# Altium schematic symbol library PROC154E3_SCH_Library.SchLib: 288 symbols (part 1 of 3)
Pins are listed as number, name and electrical type; pins without a type are passive.

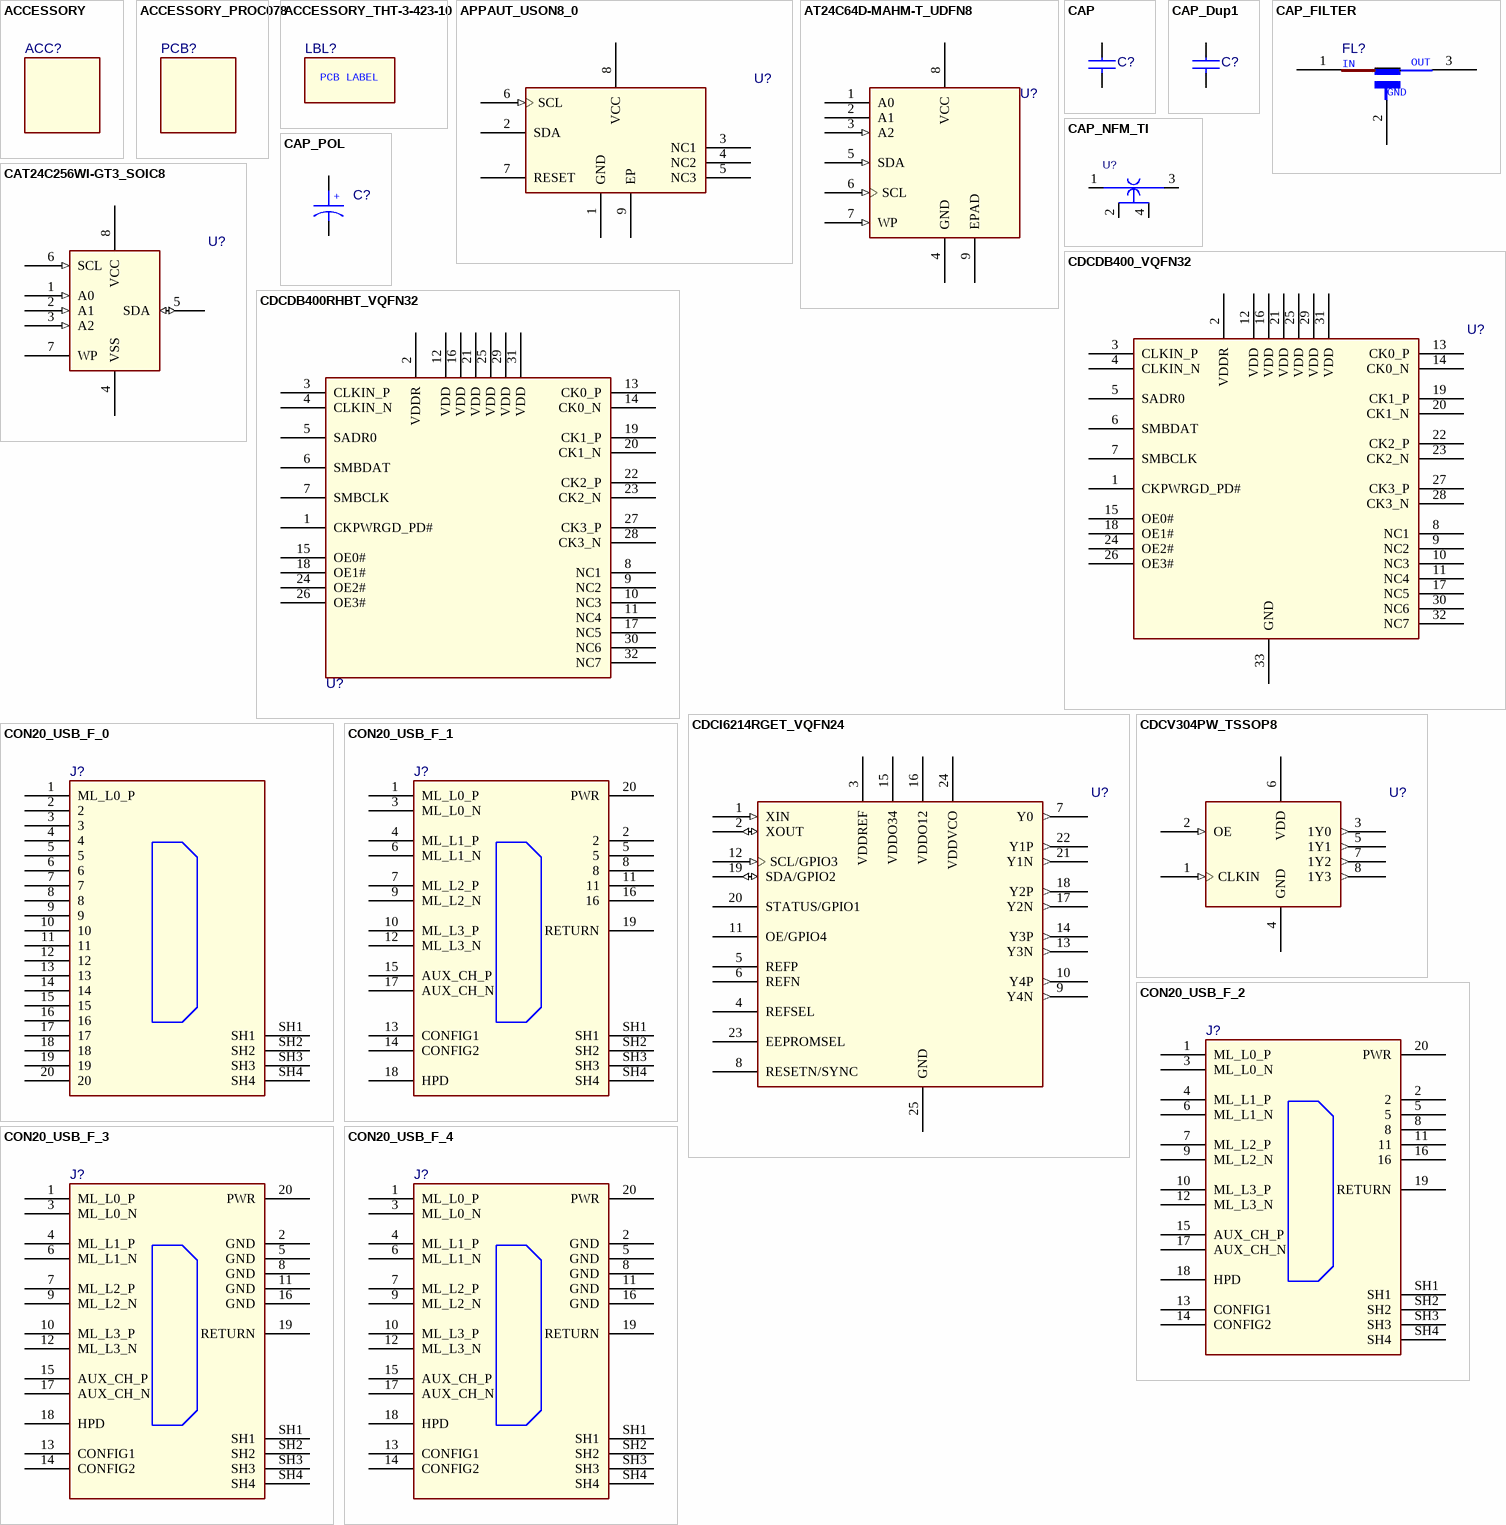
[diagram p0: symbols ACCESSORY to CON20_USB_F_4]

## ACCESSORY
designator ACC?

## ACCESSORY_PROC078
designator PCB?

## ACCESSORY_THT-3-423-10
designator LBL?
text: PCB LABEL

## APPAUT_USON8_0
designator U?
pins: 1 GND (power), 2 SDA, 3 NC1, 4 NC2, 5 NC3, 6 SCL (in), 7 RESET, 8 VCC (power), 9 EP (power)

## AT24C64D-MAHM-T_UDFN8
designator U?
pins: 1 A0, 2 A1, 3 A2 (in), 4 GND (power), 5 SDA (in), 6 SCL (in), 7 WP (in), 8 VCC (power), 9 EPAD (power)

## CAP
designator C?
pins: 1, 2

## CAP_Dup1
designator C?
pins: 1, 2

## CAP_FILTER
designator FL?
pins: 1 IN, 2 GND1 (power), 3 OUT
text: GND

## CAP_NFM_TI
designator U?
pins: 1, 2, 3, 4

## CAP_POL
designator C?
pins: 1, 2
text: +

## CAT24C256WI-GT3_SOIC8
designator U?
pins: 1 A0 (in), 2 A1 (in), 3 A2 (in), 4 VSS (power), 5 SDA (io), 6 SCL (in), 7 WP, 8 VCC (power)

## CDCDB400_VQFN32
designator U?
pins: 1 CKPWRGD_PD#, 2 VDDR (power), 3 CLKIN_P, 4 CLKIN_N, 5 SADR0, 6 SMBDAT, 7 SMBCLK, 8 NC1, 9 NC2, 10 NC3, 11 NC4, 12 VDD (power), 13 CK0_P, 14 CK0_N, 15 OE0#, 16 VDD (power), 17 NC5, 18 OE1#, 19 CK1_P, 20 CK1_N, 21 VDD (power), 22 CK2_P, 23 CK2_N, 24 OE2#, 25 VDD (power), 26 OE3#, 27 CK3_P, 28 CK3_N, 29 VDD (power), 30 NC6, 31 VDD (power), 32 NC7, 33 GND (power)

## CDCDB400RHBT_VQFN32
designator U?
pins: 1 CKPWRGD_PD#, 2 VDDR (power), 3 CLKIN_P, 4 CLKIN_N, 5 SADR0, 6 SMBDAT, 7 SMBCLK, 8 NC1, 9 NC2, 10 NC3, 11 NC4, 12 VDD (power), 13 CK0_P, 14 CK0_N, 15 OE0#, 16 VDD (power), 17 NC5, 18 OE1#, 19 CK1_P, 20 CK1_N, 21 VDD (power), 22 CK2_P, 23 CK2_N, 24 OE2#, 25 VDD (power), 26 OE3#, 27 CK3_P, 28 CK3_N, 29 VDD (power), 30 NC6, 31 VDD (power), 32 NC7

## CDCI6214RGET_VQFN24
designator U?
pins: 1 XIN (in), 2 XOUT (io), 3 VDDREF (power), 4 REFSEL, 5 REFP, 6 REFN, 7 Y0 (out), 8 RESETN/SYNC, 9 Y4N (out), 10 Y4P (out), 11 OE/GPIO4, 12 SCL/GPIO3 (in), 13 Y3N (out), 14 Y3P (out), 15 VDDO34 (power), 16 VDDO12 (power), 17 Y2N (out), 18 Y2P (out), 19 SDA/GPIO2 (io), 20 STATUS/GPIO1, 21 Y1N (out), 22 Y1P (out), 23 EEPROMSEL, 24 VDDVCO (power), 25 GND (power)

## CDCV304PW_TSSOP8
designator U?
pins: 1 CLKIN (in), 2 OE (in), 3 1Y0 (out), 4 GND (power), 5 1Y1 (out), 6 VDD (power), 7 1Y2 (out), 8 1Y3 (out)

## CON20_USB_F_0
designator J?
pins: 1 ML_L0_P, 2, 3, 4, 5, 6, 7, 8, 9, 10, 11, 12, 13, 14, 15, 16, 17, 18, 19, 20, SH1, SH2, SH3, SH4

## CON20_USB_F_1
designator J?
pins: 1 ML_L0_P, 2, 3 ML_L0_N, 4 ML_L1_P, 5, 6 ML_L1_N, 7 ML_L2_P, 8, 9 ML_L2_N, 10 ML_L3_P, 11, 12 ML_L3_N, 13 CONFIG1, 14 CONFIG2, 15 AUX_CH_P, 16, 17 AUX_CH_N, 18 HPD, 19 RETURN, 20 PWR, SH1, SH2, SH3, SH4

## CON20_USB_F_2
designator J?
pins: 1 ML_L0_P, 2, 3 ML_L0_N, 4 ML_L1_P, 5, 6 ML_L1_N, 7 ML_L2_P, 8, 9 ML_L2_N, 10 ML_L3_P, 11, 12 ML_L3_N, 13 CONFIG1, 14 CONFIG2, 15 AUX_CH_P, 16, 17 AUX_CH_N, 18 HPD, 19 RETURN, 20 PWR, SH1, SH2, SH3, SH4

## CON20_USB_F_3
designator J?
pins: 1 ML_L0_P, 2 GND, 3 ML_L0_N, 4 ML_L1_P, 5 GND, 6 ML_L1_N, 7 ML_L2_P, 8 GND, 9 ML_L2_N, 10 ML_L3_P, 11 GND, 12 ML_L3_N, 13 CONFIG1, 14 CONFIG2, 15 AUX_CH_P, 16 GND, 17 AUX_CH_N, 18 HPD, 19 RETURN, 20 PWR, SH1, SH2, SH3, SH4

## CON20_USB_F_4
designator J?
pins: 1 ML_L0_P, 2 GND (power), 3 ML_L0_N, 4 ML_L1_P, 5 GND (power), 6 ML_L1_N, 7 ML_L2_P, 8 GND (power), 9 ML_L2_N, 10 ML_L3_P, 11 GND (power), 12 ML_L3_N, 13 CONFIG1, 14 CONFIG2, 15 AUX_CH_P, 16 GND (power), 17 AUX_CH_N, 18 HPD, 19 RETURN, 20 PWR (power), SH1 (power), SH2 (power), SH3 (power), SH4 (power)

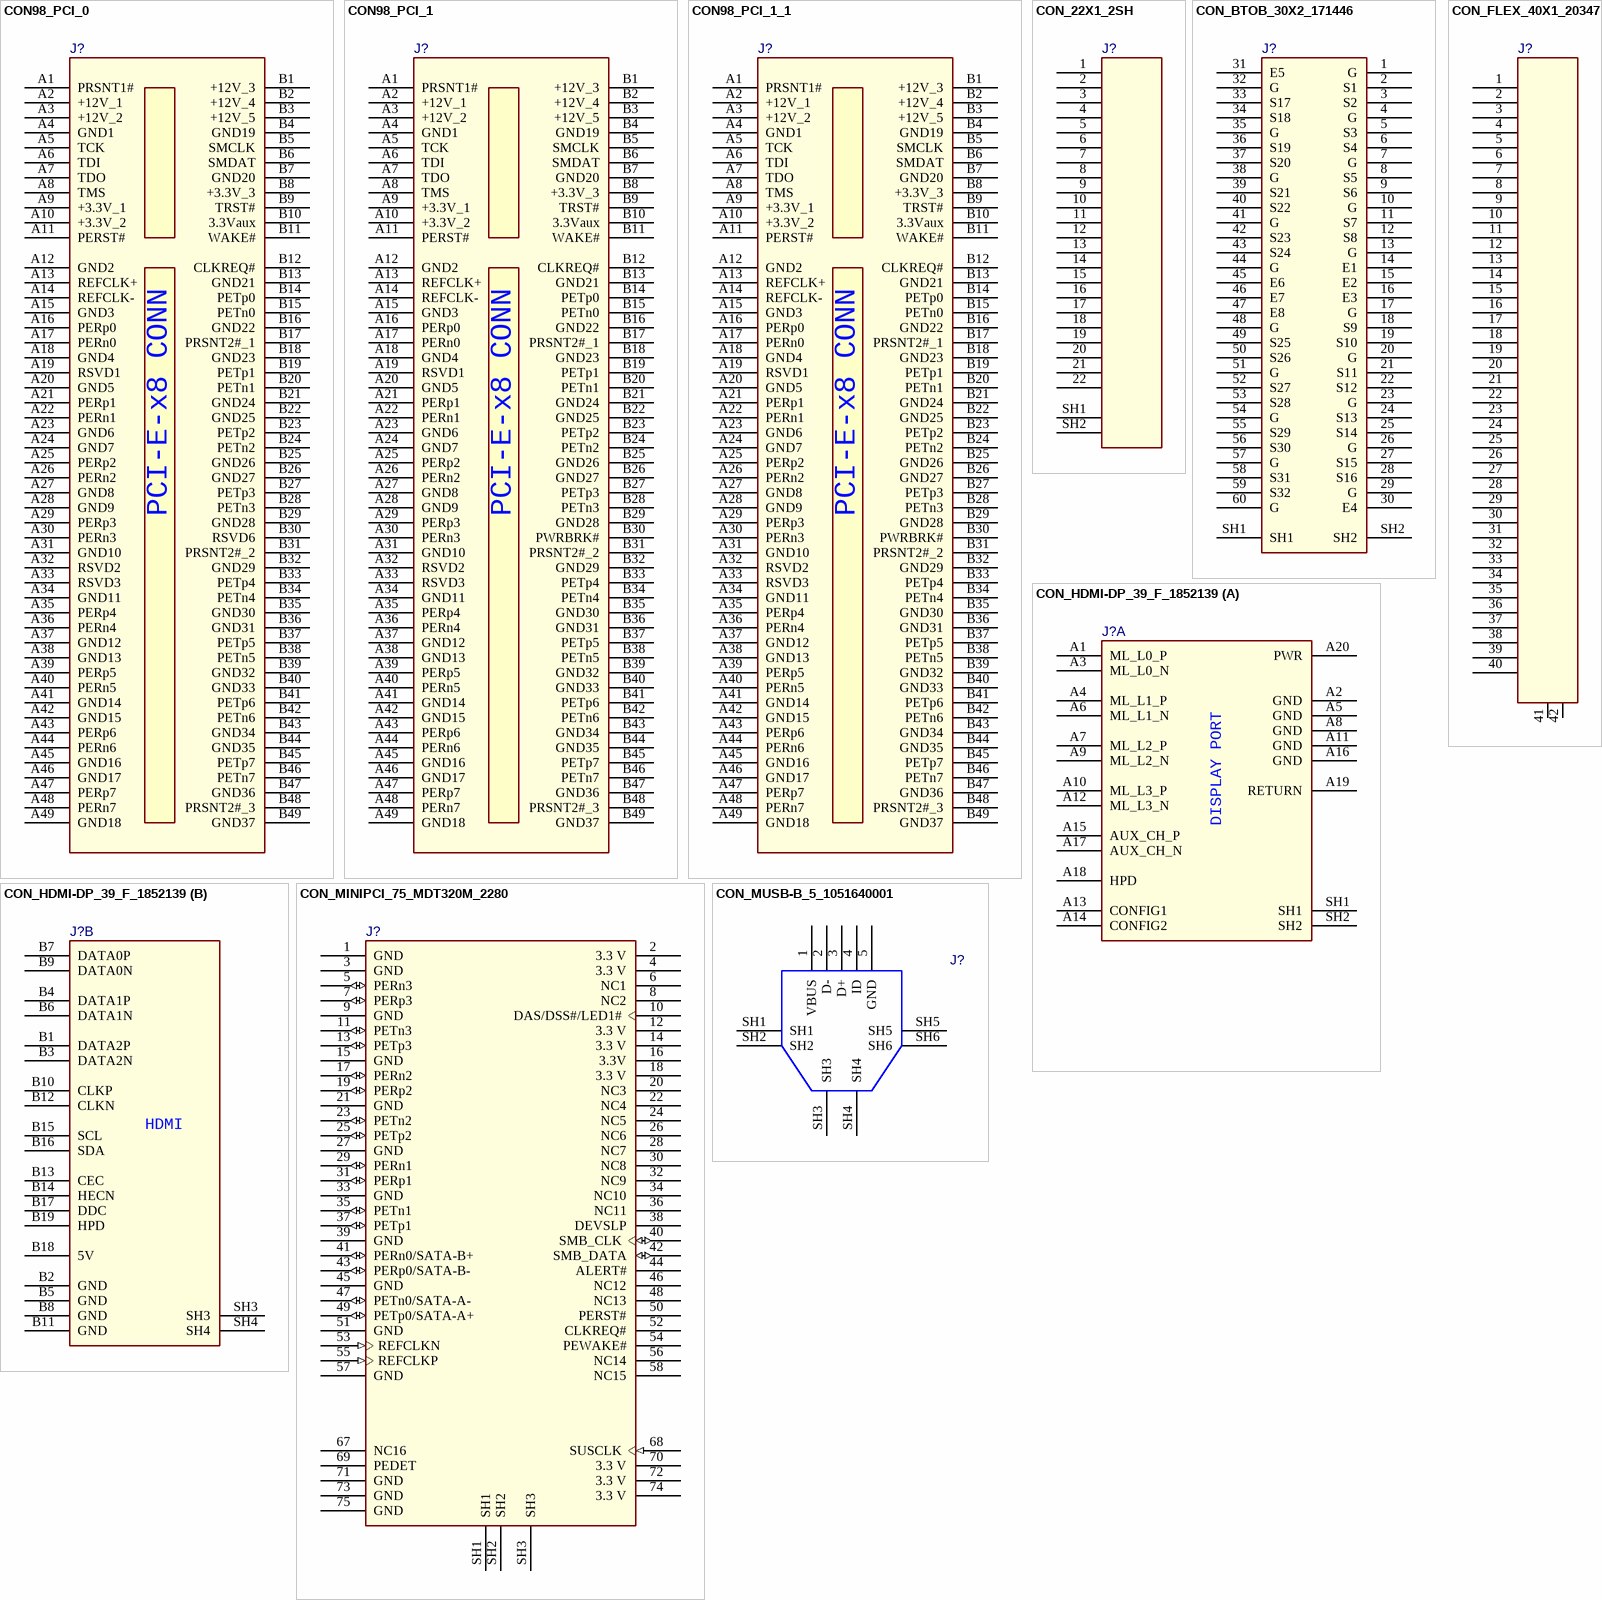
[diagram p1: symbols CON98_PCI_0 to CON_MUSB-B_5_1051640001]

## CON98_PCI_0
designator J?
pins: A1 PRSNT1#, A2 +12V_1 (power), A3 +12V_2 (power), A4 GND1 (power), A5 TCK, A6 TDI, A7 TDO, A8 TMS, A9 +3.3V_1 (power), A10 +3.3V_2 (power), A11 PERST#, A12 GND2 (power), A13 REFCLK+, A14 REFCLK-, A15 GND3 (power), A16 PERp0, A17 PERn0, A18 GND4 (power), A19 RSVD1, A20 GND5 (power), A21 PERp1, A22 PERn1, A23 GND6 (power), A24 GND7 (power), A25 PERp2, A26 PERn2, A27 GND8 (power), A28 GND9 (power), A29 PERp3, A30 PERn3, A31 GND10 (power), A32 RSVD2, A33 RSVD3, A34 GND11 (power), A35 PERp4, A36 PERn4, A37 GND12 (power), A38 GND13 (power), A39 PERp5, A40 PERn5, A41 GND14 (power), A42 GND15 (power), A43 PERp6, A44 PERn6, A45 GND16 (power), A46 GND17 (power), A47 PERp7, A48 PERn7, A49 GND18 (power), B1 +12V_3 (power), B2 +12V_4 (power), B3 +12V_5 (power), B4 GND19 (power), B5 SMCLK, B6 SMDAT, B7 GND20 (power), B8 +3.3V_3 (power), B9 TRST#, B10 3.3Vaux (power), B11 WAKE#, B12 CLKREQ#, B13 GND21 (power), B14 PETp0, B15 PETn0, B16 GND22 (power), B17 PRSNT2#_1, B18 GND23 (power), B19 PETp1, B20 PETn1, B21 GND24 (power), B22 GND25 (power), B23 PETp2, B24 PETn2, B25 GND26 (power), B26 GND27 (power), B27 PETp3, B28 PETn3, B29 GND28 (power), B30 RSVD6, B31 PRSNT2#_2, B32 GND29 (power), B33 PETp4, B34 PETn4, B35 GND30 (power), B36 GND31 (power), B37 PETp5, B38 PETn5, B39 GND32 (power), B40 GND33 (power), B41 PETp6, B42 PETn6, B43 GND34 (power), B44 GND35 (power), B45 PETp7, B46 PETn7, B47 GND36 (power), B48 PRSNT2#_3, B49 GND37 (power)
text: PCI-E-x8 CONN

## CON98_PCI_1
designator J?
pins: A1 PRSNT1#, A2 +12V_1 (power), A3 +12V_2 (power), A4 GND1 (power), A5 TCK, A6 TDI, A7 TDO, A8 TMS, A9 +3.3V_1 (power), A10 +3.3V_2 (power), A11 PERST#, A12 GND2 (power), A13 REFCLK+, A14 REFCLK-, A15 GND3 (power), A16 PERp0, A17 PERn0, A18 GND4 (power), A19 RSVD1, A20 GND5 (power), A21 PERp1, A22 PERn1, A23 GND6 (power), A24 GND7 (power), A25 PERp2, A26 PERn2, A27 GND8 (power), A28 GND9 (power), A29 PERp3, A30 PERn3, A31 GND10 (power), A32 RSVD2, A33 RSVD3, A34 GND11 (power), A35 PERp4, A36 PERn4, A37 GND12 (power), A38 GND13 (power), A39 PERp5, A40 PERn5, A41 GND14 (power), A42 GND15 (power), A43 PERp6, A44 PERn6, A45 GND16 (power), A46 GND17 (power), A47 PERp7, A48 PERn7, A49 GND18 (power), B1 +12V_3 (power), B2 +12V_4 (power), B3 +12V_5 (power), B4 GND19 (power), B5 SMCLK, B6 SMDAT, B7 GND20 (power), B8 +3.3V_3 (power), B9 TRST#, B10 3.3Vaux (power), B11 WAKE#, B12 CLKREQ#, B13 GND21 (power), B14 PETp0, B15 PETn0, B16 GND22 (power), B17 PRSNT2#_1, B18 GND23 (power), B19 PETp1, B20 PETn1, B21 GND24 (power), B22 GND25 (power), B23 PETp2, B24 PETn2, B25 GND26 (power), B26 GND27 (power), B27 PETp3, B28 PETn3, B29 GND28 (power), B30 PWRBRK#, B31 PRSNT2#_2, B32 GND29 (power), B33 PETp4, B34 PETn4, B35 GND30 (power), B36 GND31 (power), B37 PETp5, B38 PETn5, B39 GND32 (power), B40 GND33 (power), B41 PETp6, B42 PETn6, B43 GND34 (power), B44 GND35 (power), B45 PETp7, B46 PETn7, B47 GND36 (power), B48 PRSNT2#_3, B49 GND37 (power)
text: PCI-E-x8 CONN

## CON98_PCI_1_1
designator J?
pins: A1 PRSNT1#, A2 +12V_1 (power), A3 +12V_2 (power), A4 GND1 (power), A5 TCK, A6 TDI, A7 TDO, A8 TMS, A9 +3.3V_1 (power), A10 +3.3V_2 (power), A11 PERST#, A12 GND2 (power), A13 REFCLK+, A14 REFCLK-, A15 GND3 (power), A16 PERp0, A17 PERn0, A18 GND4 (power), A19 RSVD1, A20 GND5 (power), A21 PERp1, A22 PERn1, A23 GND6 (power), A24 GND7 (power), A25 PERp2, A26 PERn2, A27 GND8 (power), A28 GND9 (power), A29 PERp3, A30 PERn3, A31 GND10 (power), A32 RSVD2, A33 RSVD3, A34 GND11 (power), A35 PERp4, A36 PERn4, A37 GND12 (power), A38 GND13 (power), A39 PERp5, A40 PERn5, A41 GND14 (power), A42 GND15 (power), A43 PERp6, A44 PERn6, A45 GND16 (power), A46 GND17 (power), A47 PERp7, A48 PERn7, A49 GND18 (power), B1 +12V_3 (power), B2 +12V_4 (power), B3 +12V_5 (power), B4 GND19 (power), B5 SMCLK, B6 SMDAT, B7 GND20 (power), B8 +3.3V_3 (power), B9 TRST#, B10 3.3Vaux (power), B11 WAKE#, B12 CLKREQ#, B13 GND21 (power), B14 PETp0, B15 PETn0, B16 GND22 (power), B17 PRSNT2#_1, B18 GND23 (power), B19 PETp1, B20 PETn1, B21 GND24 (power), B22 GND25 (power), B23 PETp2, B24 PETn2, B25 GND26 (power), B26 GND27 (power), B27 PETp3, B28 PETn3, B29 GND28 (power), B30 PWRBRK#, B31 PRSNT2#_2, B32 GND29 (power), B33 PETp4, B34 PETn4, B35 GND30 (power), B36 GND31 (power), B37 PETp5, B38 PETn5, B39 GND32 (power), B40 GND33 (power), B41 PETp6, B42 PETn6, B43 GND34 (power), B44 GND35 (power), B45 PETp7, B46 PETn7, B47 GND36 (power), B48 PRSNT2#_3, B49 GND37 (power)
text: PCI-E-x8 CONN

## CON_22X1_2SH
designator J?
pins: 1, 2, 3, 4, 5, 6, 7, 8, 9, 10, 11, 12, 13, 14, 15, 16, 17, 18, 19, 20, 21, 22, SH1, SH2

## CON_BTOB_30X2_171446
designator J?
pins: 1 G (power), 2 S1, 3 S2, 4 G (power), 5 S3, 6 S4, 7 G (power), 8 S5, 9 S6, 10 G (power), 11 S7, 12 S8, 13 G (power), 14 E1, 15 E2, 16 E3, 17 G (power), 18 S9, 19 S10, 20 G (power), 21 S11, 22 S12, 23 G (power), 24 S13, 25 S14, 26 G (power), 27 S15, 28 S16, 29 G (power), 30 E4, 31 E5, 32 G (power), 33 S17, 34 S18, 35 G (power), 36 S19, 37 S20, 38 G (power), 39 S21, 40 S22, 41 G (power), 42 S23, 43 S24, 44 G (power), 45 E6, 46 E7, 47 E8, 48 G (power), 49 S25, 50 S26, 51 G (power), 52 S27, 53 S28, 54 G (power), 55 S29, 56 S30, 57 G (power), 58 S31, 59 S32, 60 G (power), SH1, SH2

## CON_FLEX_40X1_20347
designator J?
pins: 1, 2, 3, 4, 5, 6, 7, 8, 9, 10, 11, 12, 13, 14, 15, 16, 17, 18, 19, 20, 21, 22, 23, 24, 25, 26, 27, 28, 29, 30, 31, 32, 33, 34, 35, 36, 37, 38, 39, 40, 41 (power), 42 (power)

## CON_HDMI-DP_39_F_1852139
designator J?
part A pins: A1 ML_L0_P, A2 GND (power), A3 ML_L0_N, A4 ML_L1_P, A5 GND (power), A6 ML_L1_N, A7 ML_L2_P, A8 GND (power), A9 ML_L2_N, A10 ML_L3_P, A11 GND (power), A12 ML_L3_N, A13 CONFIG1, A14 CONFIG2, A15 AUX_CH_P, A16 GND (power), A17 AUX_CH_N, A18 HPD, A19 RETURN, A20 PWR, SH1, SH2
part B pins: B1 DATA2P, B2 GND (power), B3 DATA2N, B4 DATA1P, B5 GND (power), B6 DATA1N, B7 DATA0P, B8 GND (power), B9 DATA0N, B10 CLKP, B11 GND (power), B12 CLKN, B13 CEC, B14 HECN, B15 SCL, B16 SDA, B17 DDC, B18 5V, B19 HPD, SH3, SH4
part A text: DISPLAY PORT
part B text: HDMI

## CON_MINIPCI_75_MDT320M_2280
designator J?
pins: 1 GND (power), 2 3.3 V (power), 3 GND (power), 4 3.3 V (power), 5 PERn3 (io), 6 NC1, 7 PERp3 (io), 8 NC2, 9 GND (power), 10 DAS/DSS#/LED1#, 11 PETn3 (io), 12 3.3 V (power), 13 PETp3 (io), 14 3.3 V (power), 15 GND (power), 16 3.3V (power), 17 PERn2 (io), 18 3.3 V (power), 19 PERp2 (io), 20 NC3, 21 GND (power), 22 NC4, 23 PETn2 (io), 24 NC5, 25 PETp2 (io), 26 NC6, 27 GND (power), 28 NC7, 29 PERn1 (io), 30 NC8, 31 PERp1 (io), 32 NC9, 33 GND (power), 34 NC10, 35 PETn1 (io), 36 NC11, 37 PETp1 (io), 38 DEVSLP, 39 GND (power), 40 SMB_CLK (io), 41 PERn0/SATA-B+ (io), 42 SMB_DATA (io), 43 PERp0/SATA-B- (io), 44 ALERT#, 45 GND (power), 46 NC12, 47 PETn0/SATA-A- (io), 48 NC13, 49 PETp0/SATA-A+ (io), 50 PERST#, 51 GND (power), 52 CLKREQ#, 53 REFCLKN (in), 54 PEWAKE#, 55 REFCLKP (in), 56 NC14, 57 GND (power), 58 NC15, 67 NC16, 68 SUSCLK (in), 69 PEDET, 70 3.3 V (power), 71 GND (power), 72 3.3 V (power), 73 GND (power), 74 3.3 V (power), 75 GND (power), SH1, SH2, SH3

## CON_MUSB-B_5_1051640001
designator J?
pins: 1 VBUS, 2 D-, 3 D+, 4 ID, 5 GND (power), SH1, SH2, SH3, SH4, SH5, SH6

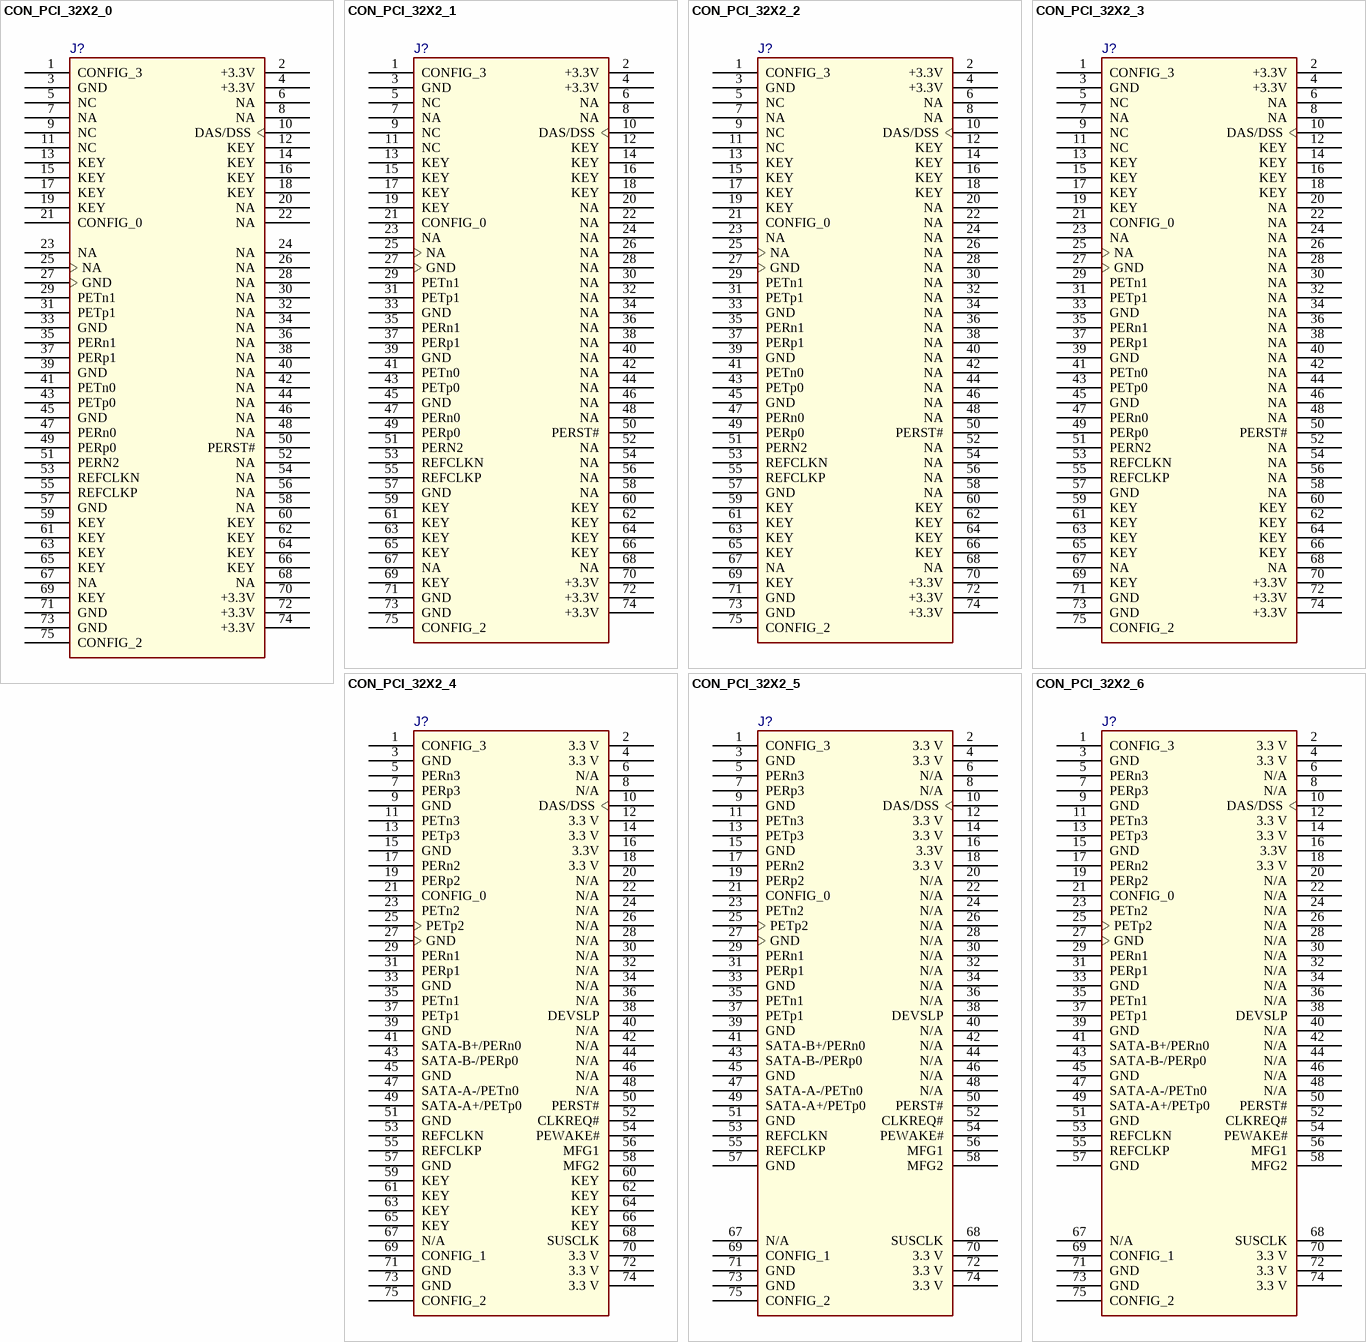
[diagram p2: symbols CON_PCI_32X2_0 to CON_PCI_32X2_6]

## CON_PCI_32X2_0
designator J?
pins: 1 CONFIG_3, 2 +3.3V (power), 3 GND (power), 4 +3.3V (power), 5 NC (power), 6 NA (power), 7 NA (power), 8 NA (power), 9 NC, 10 DAS/DSS, 11 NC, 12 KEY, 13 KEY, 14 KEY (power), 15 KEY, 16 KEY (power), 17 KEY (power), 18 KEY, 19 KEY (power), 20 NA (power), 21 CONFIG_0, 22 NA, 23 NA (power), 24 NA, 25 NA, 26 NA (power), 27 GND, 28 NA, 29 PETn1 (power), 30 NA, 31 PETp1, 32 NA (power), 33 GND, 34 NA, 35 PERn1 (power), 36 NA (power), 37 PERp1, 38 NA, 39 GND (power), 40 NA, 41 PETn0, 42 NA (power), 43 PETp0, 44 NA (power), 45 GND (power), 46 NA, 47 PERn0 (power), 48 NA, 49 PERp0, 50 PERST# (power), 51 PERN2, 52 NA (power), 53 REFCLKN (power), 54 NA, 55 REFCLKP (power), 56 NA, 57 GND, 58 NA (power), 59 KEY, 60 KEY, 61 KEY (power), 62 KEY, 63 KEY, 64 KEY (power), 65 KEY, 66 KEY (power), 67 NA, 68 NA (power), 69 KEY, 70 +3.3V (power), 71 GND, 72 +3.3V (power), 73 GND, 74 +3.3V (power), 75 CONFIG_2

## CON_PCI_32X2_1
designator J?
pins: 1 CONFIG_3, 2 +3.3V (power), 3 GND (power), 4 +3.3V (power), 5 NC (power), 6 NA (power), 7 NA (power), 8 NA (power), 9 NC, 10 DAS/DSS, 11 NC, 12 KEY, 13 KEY, 14 KEY (power), 15 KEY, 16 KEY (power), 17 KEY (power), 18 KEY, 19 KEY (power), 20 NA (power), 21 CONFIG_0, 22 NA, 23 NA (power), 24 NA, 25 NA, 26 NA (power), 27 GND, 28 NA, 29 PETn1 (power), 30 NA, 31 PETp1, 32 NA (power), 33 GND, 34 NA, 35 PERn1 (power), 36 NA (power), 37 PERp1, 38 NA, 39 GND (power), 40 NA, 41 PETn0, 42 NA (power), 43 PETp0, 44 NA (power), 45 GND (power), 46 NA, 47 PERn0 (power), 48 NA, 49 PERp0, 50 PERST# (power), 51 PERN2, 52 NA (power), 53 REFCLKN (power), 54 NA, 55 REFCLKP (power), 56 NA, 57 GND, 58 NA (power), 59 KEY, 60 KEY, 61 KEY (power), 62 KEY, 63 KEY, 64 KEY (power), 65 KEY, 66 KEY (power), 67 NA, 68 NA (power), 69 KEY, 70 +3.3V (power), 71 GND, 72 +3.3V (power), 73 GND, 74 +3.3V (power), 75 CONFIG_2

## CON_PCI_32X2_2
designator J?
pins: 1 CONFIG_3, 2 +3.3V (power), 3 GND (power), 4 +3.3V (power), 5 NC (power), 6 NA (power), 7 NA (power), 8 NA (power), 9 NC, 10 DAS/DSS, 11 NC, 12 KEY, 13 KEY, 14 KEY (power), 15 KEY, 16 KEY (power), 17 KEY (power), 18 KEY, 19 KEY (power), 20 NA (power), 21 CONFIG_0, 22 NA, 23 NA (power), 24 NA, 25 NA, 26 NA (power), 27 GND, 28 NA, 29 PETn1 (power), 30 NA, 31 PETp1, 32 NA (power), 33 GND, 34 NA, 35 PERn1 (power), 36 NA (power), 37 PERp1, 38 NA, 39 GND (power), 40 NA, 41 PETn0, 42 NA (power), 43 PETp0, 44 NA (power), 45 GND (power), 46 NA, 47 PERn0 (power), 48 NA, 49 PERp0, 50 PERST# (power), 51 PERN2, 52 NA (power), 53 REFCLKN (power), 54 NA, 55 REFCLKP (power), 56 NA, 57 GND, 58 NA (power), 59 KEY, 60 KEY, 61 KEY (power), 62 KEY, 63 KEY, 64 KEY (power), 65 KEY, 66 KEY (power), 67 NA, 68 NA (power), 69 KEY, 70 +3.3V (power), 71 GND, 72 +3.3V (power), 73 GND, 74 +3.3V (power), 75 CONFIG_2

## CON_PCI_32X2_3
designator J?
pins: 1 CONFIG_3, 2 +3.3V (power), 3 GND (power), 4 +3.3V (power), 5 NC (power), 6 NA (power), 7 NA (power), 8 NA (power), 9 NC, 10 DAS/DSS, 11 NC, 12 KEY, 13 KEY, 14 KEY (power), 15 KEY, 16 KEY (power), 17 KEY (power), 18 KEY, 19 KEY (power), 20 NA (power), 21 CONFIG_0, 22 NA, 23 NA (power), 24 NA, 25 NA, 26 NA (power), 27 GND, 28 NA, 29 PETn1 (power), 30 NA, 31 PETp1, 32 NA (power), 33 GND, 34 NA, 35 PERn1 (power), 36 NA (power), 37 PERp1, 38 NA, 39 GND (power), 40 NA, 41 PETn0, 42 NA (power), 43 PETp0, 44 NA (power), 45 GND (power), 46 NA, 47 PERn0 (power), 48 NA, 49 PERp0, 50 PERST# (power), 51 PERN2, 52 NA (power), 53 REFCLKN (power), 54 NA, 55 REFCLKP (power), 56 NA, 57 GND, 58 NA (power), 59 KEY, 60 KEY, 61 KEY (power), 62 KEY, 63 KEY, 64 KEY (power), 65 KEY, 66 KEY (power), 67 NA, 68 NA (power), 69 KEY, 70 +3.3V (power), 71 GND, 72 +3.3V (power), 73 GND, 74 +3.3V (power), 75 CONFIG_2

## CON_PCI_32X2_4
designator J?
pins: 1 CONFIG_3, 2 3.3 V (power), 3 GND (power), 4 3.3 V (power), 5 PERn3 (power), 6 N/A (power), 7 PERp3 (power), 8 N/A (power), 9 GND, 10 DAS/DSS, 11 PETn3, 12 3.3 V, 13 PETp3, 14 3.3 V (power), 15 GND, 16 3.3V (power), 17 PERn2 (power), 18 3.3 V, 19 PERp2 (power), 20 N/A (power), 21 CONFIG_0, 22 N/A, 23 PETn2 (power), 24 N/A, 25 PETp2, 26 N/A (power), 27 GND, 28 N/A, 29 PERn1 (power), 30 N/A, 31 PERp1, 32 N/A (power), 33 GND, 34 N/A, 35 PETn1 (power), 36 N/A (power), 37 PETp1, 38 DEVSLP, 39 GND (power), 40 N/A, 41 SATA-B+/PERn0, 42 N/A (power), 43 SATA-B-/PERp0, 44 N/A (power), 45 GND (power), 46 N/A, 47 SATA-A-/PETn0 (power), 48 N/A, 49 SATA-A+/PETp0, 50 PERST# (power), 51 GND, 52 CLKREQ# (power), 53 REFCLKN (power), 54 PEWAKE#, 55 REFCLKP (power), 56 MFG1, 57 GND, 58 MFG2 (power), 59 KEY, 60 KEY, 61 KEY (power), 62 KEY, 63 KEY, 64 KEY (power), 65 KEY, 66 KEY (power), 67 N/A, 68 SUSCLK (power), 69 CONFIG_1, 70 3.3 V (power), 71 GND, 72 3.3 V (power), 73 GND, 74 3.3 V (power), 75 CONFIG_2

## CON_PCI_32X2_5
designator J?
pins: 1 CONFIG_3, 2 3.3 V (power), 3 GND (power), 4 3.3 V (power), 5 PERn3 (power), 6 N/A (power), 7 PERp3 (power), 8 N/A (power), 9 GND, 10 DAS/DSS, 11 PETn3, 12 3.3 V, 13 PETp3, 14 3.3 V (power), 15 GND, 16 3.3V (power), 17 PERn2 (power), 18 3.3 V, 19 PERp2 (power), 20 N/A (power), 21 CONFIG_0, 22 N/A, 23 PETn2 (power), 24 N/A, 25 PETp2, 26 N/A (power), 27 GND, 28 N/A, 29 PERn1 (power), 30 N/A, 31 PERp1, 32 N/A (power), 33 GND, 34 N/A, 35 PETn1 (power), 36 N/A (power), 37 PETp1, 38 DEVSLP, 39 GND (power), 40 N/A, 41 SATA-B+/PERn0, 42 N/A (power), 43 SATA-B-/PERp0, 44 N/A (power), 45 GND (power), 46 N/A, 47 SATA-A-/PETn0 (power), 48 N/A, 49 SATA-A+/PETp0, 50 PERST# (power), 51 GND, 52 CLKREQ# (power), 53 REFCLKN (power), 54 PEWAKE#, 55 REFCLKP (power), 56 MFG1, 57 GND, 58 MFG2 (power), 67 N/A, 68 SUSCLK (power), 69 CONFIG_1, 70 3.3 V (power), 71 GND, 72 3.3 V (power), 73 GND, 74 3.3 V (power), 75 CONFIG_2

## CON_PCI_32X2_6
designator J?
pins: 1 CONFIG_3, 2 3.3 V, 3 GND, 4 3.3 V, 5 PERn3, 6 N/A, 7 PERp3, 8 N/A, 9 GND, 10 DAS/DSS, 11 PETn3, 12 3.3 V, 13 PETp3, 14 3.3 V, 15 GND, 16 3.3V, 17 PERn2, 18 3.3 V, 19 PERp2, 20 N/A, 21 CONFIG_0, 22 N/A, 23 PETn2, 24 N/A, 25 PETp2, 26 N/A, 27 GND, 28 N/A, 29 PERn1, 30 N/A, 31 PERp1, 32 N/A, 33 GND, 34 N/A, 35 PETn1, 36 N/A, 37 PETp1, 38 DEVSLP, 39 GND, 40 N/A, 41 SATA-B+/PERn0, 42 N/A, 43 SATA-B-/PERp0, 44 N/A, 45 GND, 46 N/A, 47 SATA-A-/PETn0, 48 N/A, 49 SATA-A+/PETp0, 50 PERST#, 51 GND, 52 CLKREQ#, 53 REFCLKN, 54 PEWAKE#, 55 REFCLKP, 56 MFG1, 57 GND, 58 MFG2, 67 N/A, 68 SUSCLK, 69 CONFIG_1, 70 3.3 V, 71 GND, 72 3.3 V, 73 GND, 74 3.3 V, 75 CONFIG_2

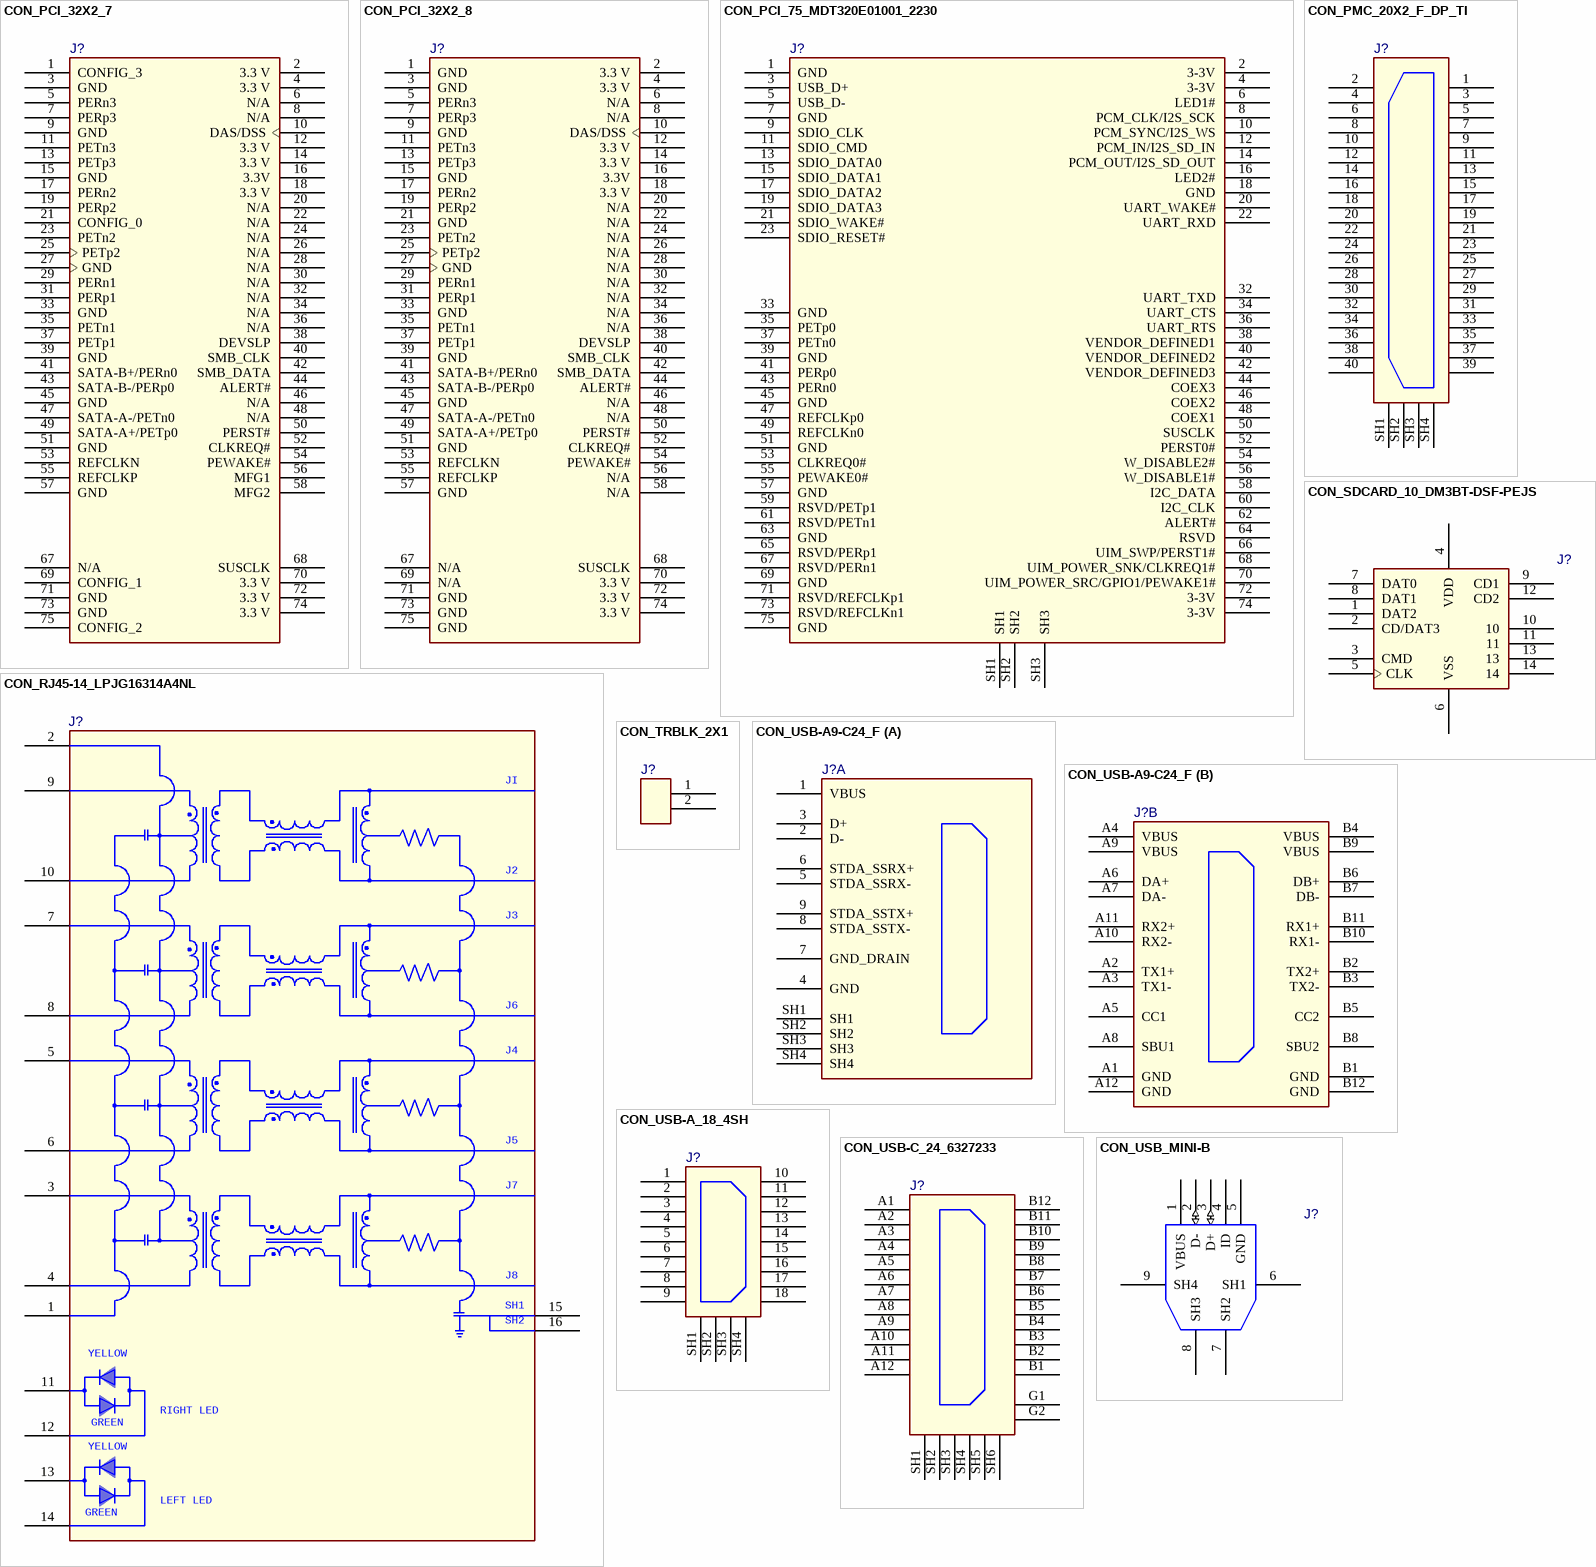
[diagram p3: symbols CON_PCI_32X2_7 to CON_USB_MINI-B]

## CON_PCI_32X2_7
designator J?
pins: 1 CONFIG_3, 2 3.3 V, 3 GND, 4 3.3 V, 5 PERn3, 6 N/A, 7 PERp3, 8 N/A, 9 GND, 10 DAS/DSS, 11 PETn3, 12 3.3 V, 13 PETp3, 14 3.3 V, 15 GND, 16 3.3V, 17 PERn2, 18 3.3 V, 19 PERp2, 20 N/A, 21 CONFIG_0, 22 N/A, 23 PETn2, 24 N/A, 25 PETp2, 26 N/A, 27 GND, 28 N/A, 29 PERn1, 30 N/A, 31 PERp1, 32 N/A, 33 GND, 34 N/A, 35 PETn1, 36 N/A, 37 PETp1, 38 DEVSLP, 39 GND, 40 SMB_CLK, 41 SATA-B+/PERn0, 42 SMB_DATA, 43 SATA-B-/PERp0, 44 ALERT#, 45 GND, 46 N/A, 47 SATA-A-/PETn0, 48 N/A, 49 SATA-A+/PETp0, 50 PERST#, 51 GND, 52 CLKREQ#, 53 REFCLKN, 54 PEWAKE#, 55 REFCLKP, 56 MFG1, 57 GND, 58 MFG2, 67 N/A, 68 SUSCLK, 69 CONFIG_1, 70 3.3 V, 71 GND, 72 3.3 V, 73 GND, 74 3.3 V, 75 CONFIG_2

## CON_PCI_32X2_8
designator J?
pins: 1 GND (power), 2 3.3 V, 3 GND, 4 3.3 V, 5 PERn3, 6 N/A, 7 PERp3, 8 N/A, 9 GND, 10 DAS/DSS, 11 PETn3, 12 3.3 V, 13 PETp3, 14 3.3 V, 15 GND, 16 3.3V, 17 PERn2, 18 3.3 V, 19 PERp2, 20 N/A, 21 GND (power), 22 N/A, 23 PETn2, 24 N/A, 25 PETp2, 26 N/A, 27 GND, 28 N/A, 29 PERn1, 30 N/A, 31 PERp1, 32 N/A, 33 GND, 34 N/A, 35 PETn1, 36 N/A, 37 PETp1, 38 DEVSLP, 39 GND, 40 SMB_CLK, 41 SATA-B+/PERn0, 42 SMB_DATA, 43 SATA-B-/PERp0, 44 ALERT#, 45 GND, 46 N/A, 47 SATA-A-/PETn0, 48 N/A, 49 SATA-A+/PETp0, 50 PERST#, 51 GND, 52 CLKREQ#, 53 REFCLKN, 54 PEWAKE#, 55 REFCLKP, 56 N/A, 57 GND, 58 N/A, 67 N/A, 68 SUSCLK, 69 N/A, 70 3.3 V, 71 GND, 72 3.3 V, 73 GND, 74 3.3 V, 75 GND (power)

## CON_PCI_75_MDT320E01001_2230
designator J?
pins: 1 GND (power), 2 3-3V (power), 3 USB_D+, 4 3-3V (power), 5 USB_D-, 6 LED1#, 7 GND (power), 8 PCM_CLK/I2S_SCK, 9 SDIO_CLK, 10 PCM_SYNC/I2S_WS, 11 SDIO_CMD, 12 PCM_IN/I2S_SD_IN, 13 SDIO_DATA0, 14 PCM_OUT/I2S_SD_OUT, 15 SDIO_DATA1, 16 LED2#, 17 SDIO_DATA2, 18 GND (power), 19 SDIO_DATA3, 20 UART_WAKE#, 21 SDIO_WAKE#, 22 UART_RXD, 23 SDIO_RESET#, 32 UART_TXD, 33 GND (power), 34 UART_CTS, 35 PETp0, 36 UART_RTS, 37 PETn0, 38 VENDOR_DEFINED1, 39 GND (power), 40 VENDOR_DEFINED2, 41 PERp0, 42 VENDOR_DEFINED3, 43 PERn0, 44 COEX3, 45 GND (power), 46 COEX2, 47 REFCLKp0, 48 COEX1, 49 REFCLKn0, 50 SUSCLK, 51 GND (power), 52 PERST0#, 53 CLKREQ0#, 54 W_DISABLE2#, 55 PEWAKE0#, 56 W_DISABLE1#, 57 GND (power), 58 I2C_DATA, 59 RSVD/PETp1, 60 I2C_CLK, 61 RSVD/PETn1, 62 ALERT#, 63 GND (power), 64 RSVD, 65 RSVD/PERp1, 66 UIM_SWP/PERST1#, 67 RSVD/PERn1, 68 UIM_POWER_SNK/CLKREQ1#, 69 GND (power), 70 UIM_POWER_SRC/GPIO1/PEWAKE1#, 71 RSVD/REFCLKp1, 72 3-3V (power), 73 RSVD/REFCLKn1, 74 3-3V (power), 75 GND (power), SH1, SH2, SH3

## CON_PMC_20X2_F_DP_TI
designator J?
pins: 1, 2, 3, 4, 5, 6, 7, 8, 9, 10, 11, 12, 13, 14, 15, 16, 17, 18, 19, 20, 21, 22, 23, 24, 25, 26, 27, 28, 29, 30, 31, 32, 33, 34, 35, 36, 37, 38, 39, 40, SH1, SH2, SH3, SH4

## CON_RJ45-14_LPJG16314A4NL
designator J?
pins: 1 CH-GND, 2 VCC, 3 MX3+, 4 MX3-, 5 MX2+, 6 MX2-, 7 MX1+, 8 MX1-, 9 MX0+, 10 MX0-, 11, 12, 13, 14, 15 SH1, 16 SH2
text: JI; J2; J3; J6; J4; J5; J7; J8; YELLOW; RIGHT LED; GREEN; LEFT LED

## CON_SDCARD_10_DM3BT-DSF-PEJS
designator J?
pins: 1 DAT2, 2 CD/DAT3, 3 CMD, 4 VDD (power), 5 CLK, 6 VSS (power), 7 DAT0, 8 DAT1, 9 CD1, 10, 11, 12 CD2, 13, 14

## CON_TRBLK_2X1
designator J?
pins: 1, 2

## CON_USB-A9-C24_F
designator J?
part A pins: 1 VBUS (power), 2 D-, 3 D+, 4 GND (power), 5 STDA_SSRX-, 6 STDA_SSRX+, 7 GND_DRAIN (power), 8 STDA_SSTX-, 9 STDA_SSTX+, SH1, SH2, SH3, SH4
part B pins: A1 GND (power), A2 TX1+, A3 TX1-, A4 VBUS (power), A5 CC1, A6 DA+, A7 DA-, A8 SBU1, A9 VBUS (power), A10 RX2-, A11 RX2+, A12 GND (power), B1 GND (power), B2 TX2+, B3 TX2-, B4 VBUS (power), B5 CC2, B6 DB+, B7 DB-, B8 SBU2, B9 VBUS (power), B10 RX1-, B11 RX1+, B12 GND (power)

## CON_USB-A_18_4SH
designator J?
pins: 1 VBUS_1, 2 D-_1, 3 D+_1, 4 GND_1, 5 STDA_SSRX-_1, 6 STDA_SSRX+_1, 7 GND_DRAIN_1, 8 STDA_SSTX-_1, 9 STDA_SSTX+_1, 10 VBUS_2, 11 D-_2, 12 D+_2, 13 GND_2, 14 STDA_SSRX-_2, 15 STDA_SSRX+_2, 16 GND_DRAIN_2, 17 STDA_SSTX-_2, 18 STDA_SSTX+_2, SH1, SH2, SH3, SH4

## CON_USB-C_24_6327233
designator J?
pins: A1 GND (power), A2 SSTXP1, A3 SSTXN1, A4 VBUS1, A5 CC1, A6 DP1, A7 DN1, A8 SBU1, A9 VBUS2, A10 SSRXN2, A11 SSRXP2, A12 GND (power), B1 GND (power), B2 SSTXP2, B3 SSTXN2, B4 VBUS3, B5 CC2, B6 DP2, B7 DN2, B8 SBU2, B9 VBUS4, B10 SSRXN1, B11 SSRXP1, B12 GND (power), G1 GND (power), G2 GND (power), SH1, SH2, SH3, SH4, SH5, SH6

## CON_USB_MINI-B
designator J?
pins: 1 VBUS (power), 2 D- (io), 3 D+ (io), 4 ID, 5 GND (power), 6 SH1 (power), 7 SH2 (power), 8 SH3 (power), 9 SH4 (power)

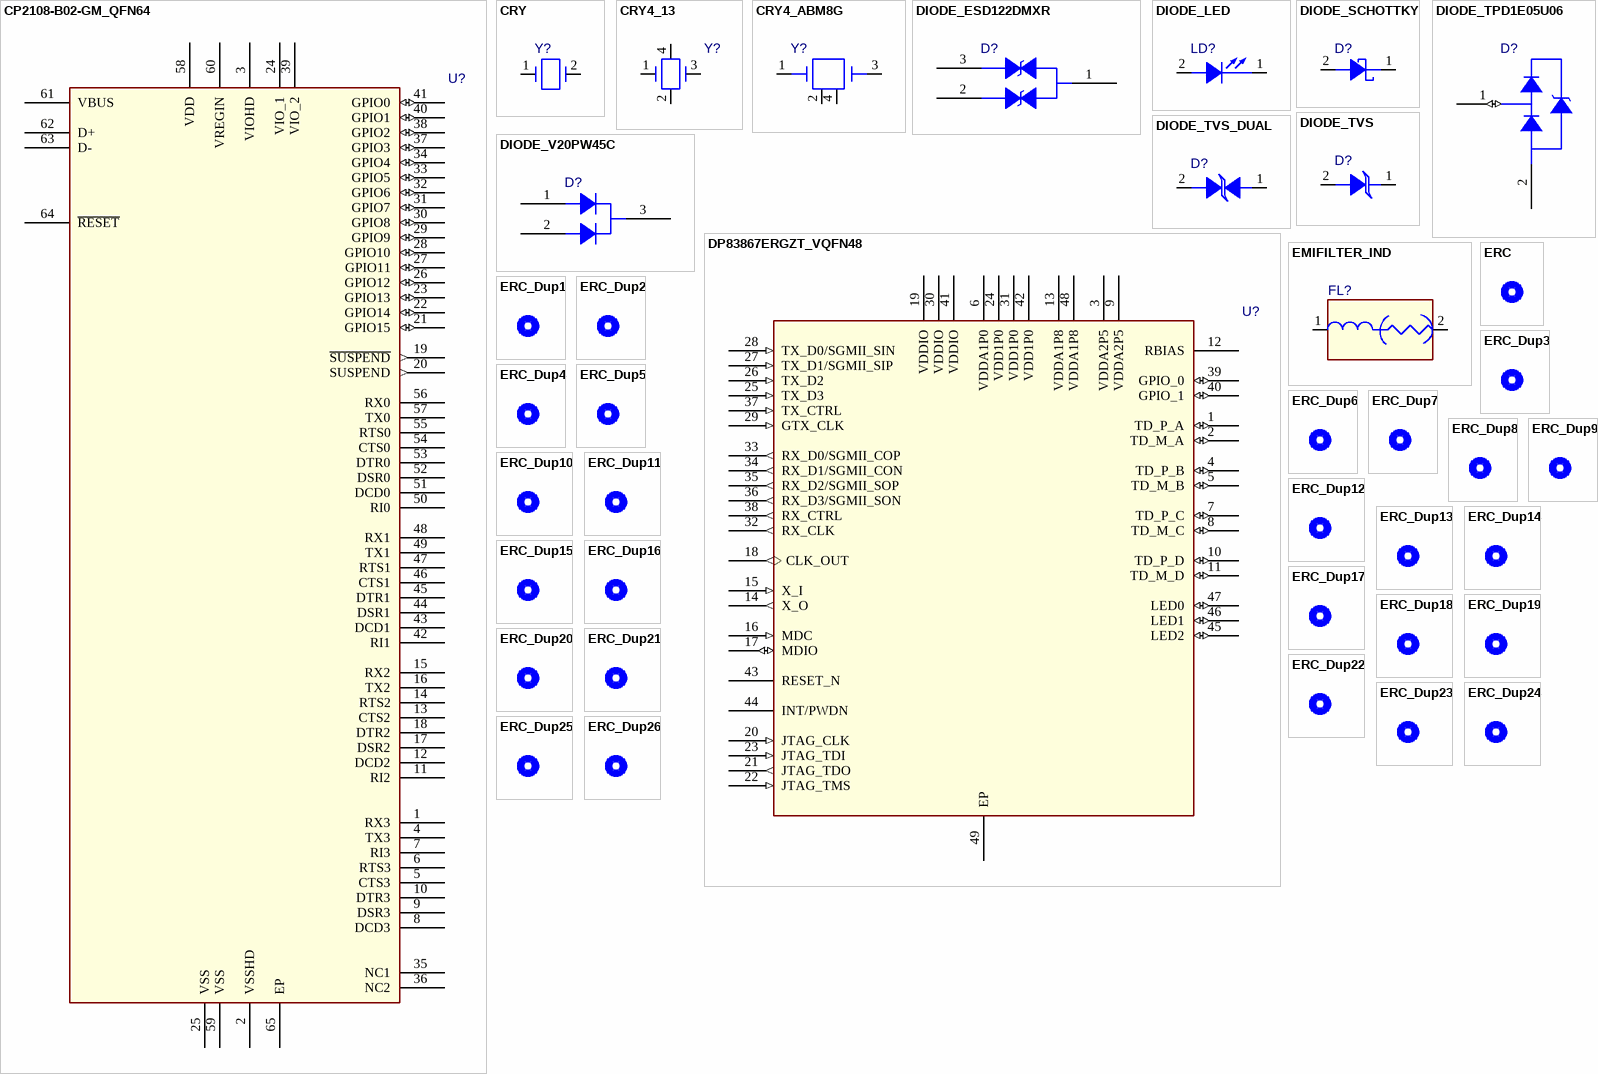
[diagram p4: symbols CP2108-B02-GM_QFN64 to ERC_Dup26]

## CP2108-B02-GM_QFN64
designator U?
pins: 1 RX3, 2 VSSHD (power), 3 VIOHD (power), 4 TX3, 5 CTS3, 6 RTS3, 7 RI3, 8 DCD3, 9 DSR3, 10 DTR3, 11 RI2, 12 DCD2, 13 CTS2, 14 RTS2, 15 RX2, 16 TX2, 17 DSR2, 18 DTR2, 19 ~{SUSPEND} (out), 20 SUSPEND (out), 21 GPIO15 (io), 22 GPIO14 (io), 23 GPIO13 (io), 24 VIO_1 (power), 25 VSS (power), 26 GPIO12 (io), 27 GPIO11 (io), 28 GPIO10 (io), 29 GPIO9 (io), 30 GPIO8 (io), 31 GPIO7 (io), 32 GPIO6 (io), 33 GPIO5 (io), 34 GPIO4 (io), 35 NC1, 36 NC2, 37 GPIO3 (io), 38 GPIO2 (io), 39 VIO_2 (power), 40 GPIO1 (io), 41 GPIO0 (io), 42 RI1, 43 DCD1, 44 DSR1, 45 DTR1, 46 CTS1, 47 RTS1, 48 RX1, 49 TX1, 50 RI0, 51 DCD0, 52 DSR0, 53 DTR0, 54 CTS0, 55 RTS0, 56 RX0, 57 TX0, 58 VDD (power), 59 VSS (power), 60 VREGIN (power), 61 VBUS, 62 D+, 63 D-, 64 ~{RESET}, 65 EP (power)

## CRY
designator Y?
pins: 1, 2

## CRY4_13
designator Y?
pins: 1, 2, 3, 4

## CRY4_ABM8G
designator Y?
pins: 1, 2 GND1 (power), 3, 4 GND2 (power)

## DIODE_ESD122DMXR
designator D?
pins: 1 GND (power), 2 IO1, 3 IO2

## DIODE_LED
designator LD?
pins: 1 CATHODE, 2 ANODE

## DIODE_SCHOTTKY
designator D?
pins: 1 CATHODE, 2 ANODE

## DIODE_TPD1E05U06
designator D?
pins: 1 I/O (io), 2 GND (power)

## DIODE_TVS
designator D?
pins: 1 CATHODE, 2 ANODE

## DIODE_TVS_DUAL
designator D?
pins: 1 CATHODE, 2 ANODE

## DIODE_V20PW45C
designator D?
pins: 1, 2, 3 K

## DP83867ERGZT_VQFN48
designator U?
pins: 1 TD_P_A (io), 2 TD_M_A (io), 3 VDDA2P5 (power), 4 TD_P_B (io), 5 TD_M_B (io), 6 VDDA1P0 (power), 7 TD_P_C (io), 8 TD_M_C (io), 9 VDDA2P5 (power), 10 TD_P_D (io), 11 TD_M_D (io), 12 RBIAS, 13 VDDA1P8 (power), 14 X_O (out), 15 X_I (in), 16 MDC (in), 17 MDIO (io), 18 CLK_OUT (out), 19 VDDIO (power), 20 JTAG_CLK (in), 21 JTAG_TDO (out), 22 JTAG_TMS (in), 23 JTAG_TDI (in), 24 VDD1P0 (power), 25 TX_D3 (in), 26 TX_D2 (in), 27 TX_D1/SGMII_SIP (in), 28 TX_D0/SGMII_SIN (in), 29 GTX_CLK (in), 30 VDDIO (power), 31 VDD1P0 (power), 32 RX_CLK (out), 33 RX_D0/SGMII_COP (out), 34 RX_D1/SGMII_CON (out), 35 RX_D2/SGMII_SOP (out), 36 RX_D3/SGMII_SON (out), 37 TX_CTRL (in), 38 RX_CTRL (out), 39 GPIO_0 (io), 40 GPIO_1 (io), 41 VDDIO (power), 42 VDD1P0 (power), 43 RESET_N, 44 INT/PWDN, 45 LED2 (io), 46 LED1 (io), 47 LED0 (io), 48 VDDA1P8 (power), 49 EP (power)

## EMIFILTER_IND
designator FL?
pins: 1, 2

## ERC
designator *  (value not drawn)  (graphical)

## ERC_Dup1
designator *  (value not drawn)  (graphical)

## ERC_Dup2
designator *  (value not drawn)  (graphical)

## ERC_Dup3
designator *  (value not drawn)  (graphical)

## ERC_Dup4
designator *  (value not drawn)  (graphical)

## ERC_Dup5
designator *  (value not drawn)  (graphical)

## ERC_Dup6
designator *  (value not drawn)  (graphical)

## ERC_Dup7
designator *  (value not drawn)  (graphical)

## ERC_Dup8
designator *  (value not drawn)  (graphical)

## ERC_Dup9
designator *  (value not drawn)  (graphical)

## ERC_Dup10
designator *  (value not drawn)  (graphical)

## ERC_Dup11
designator *  (value not drawn)  (graphical)

## ERC_Dup12
designator *  (value not drawn)  (graphical)

## ERC_Dup13
designator *  (value not drawn)  (graphical)

## ERC_Dup14
designator *  (value not drawn)  (graphical)

## ERC_Dup15
designator *  (value not drawn)  (graphical)

## ERC_Dup16
designator *  (value not drawn)  (graphical)

## ERC_Dup17
designator *  (value not drawn)  (graphical)

## ERC_Dup18
designator *  (value not drawn)  (graphical)

## ERC_Dup19
designator *  (value not drawn)  (graphical)

## ERC_Dup20
designator *  (value not drawn)  (graphical)

## ERC_Dup21
designator *  (value not drawn)  (graphical)

## ERC_Dup22
designator *  (value not drawn)  (graphical)

## ERC_Dup23
designator *  (value not drawn)  (graphical)

## ERC_Dup24
designator *  (value not drawn)  (graphical)

## ERC_Dup25
designator *  (value not drawn)  (graphical)

## ERC_Dup26
designator *  (value not drawn)  (graphical)

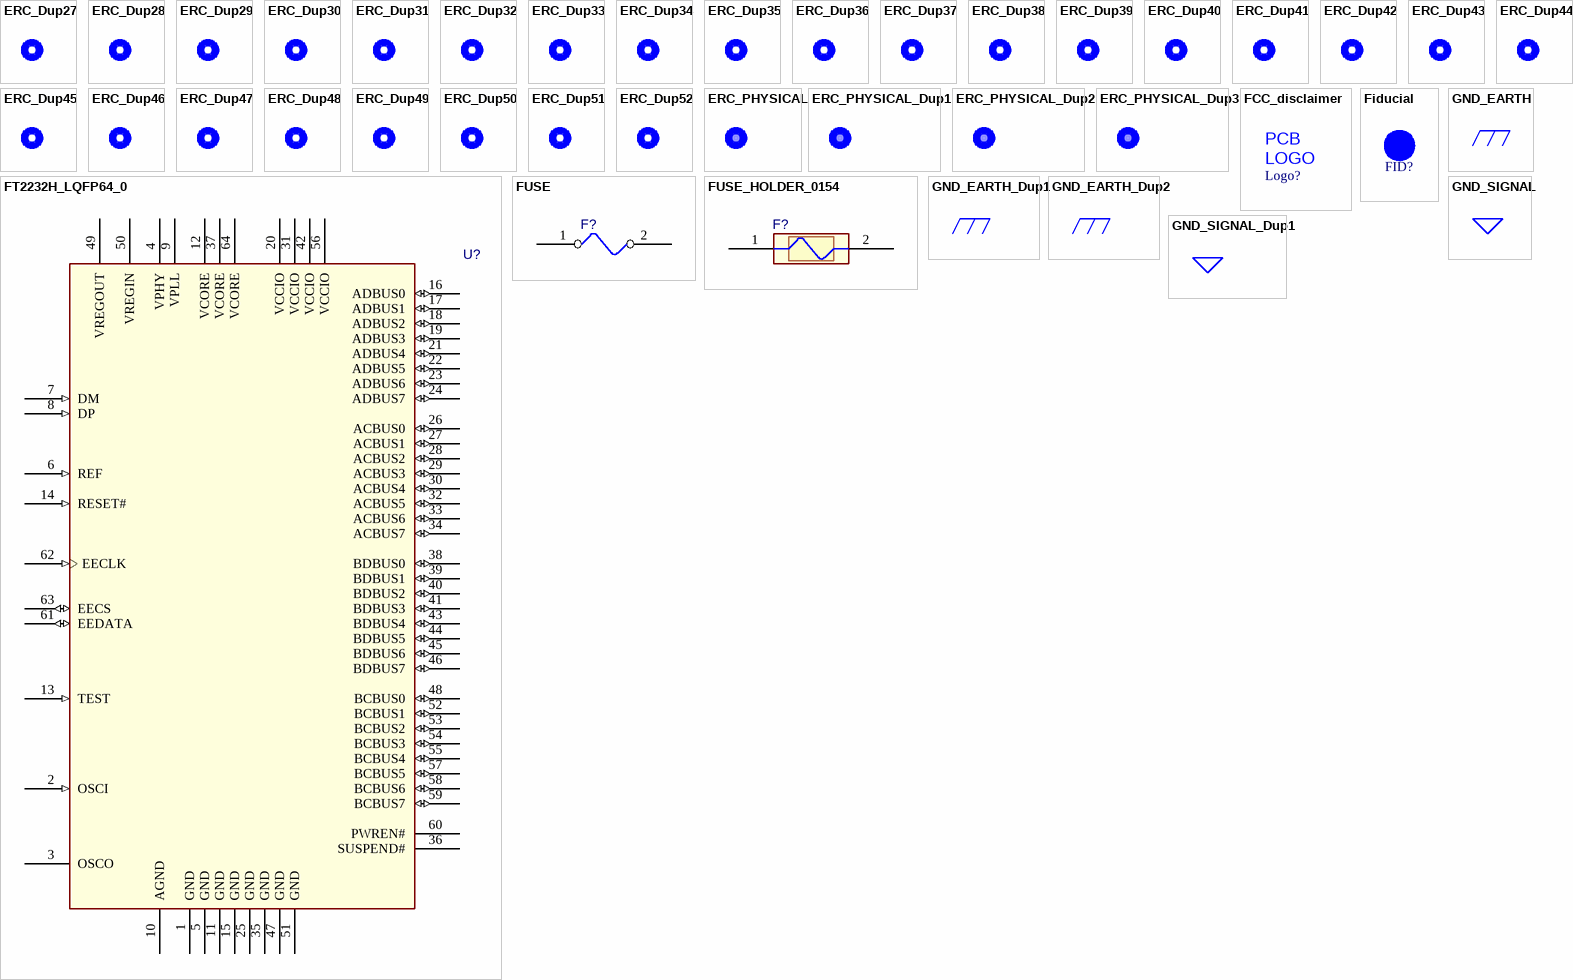
[diagram p5: symbols ERC_Dup27 to GND_SIGNAL_Dup1]

## ERC_Dup27
designator *  (value not drawn)  (graphical)

## ERC_Dup28
designator *  (value not drawn)  (graphical)

## ERC_Dup29
designator *  (value not drawn)  (graphical)

## ERC_Dup30
designator *  (value not drawn)  (graphical)

## ERC_Dup31
designator *  (value not drawn)  (graphical)

## ERC_Dup32
designator *  (value not drawn)  (graphical)

## ERC_Dup33
designator *  (value not drawn)  (graphical)

## ERC_Dup34
designator *  (value not drawn)  (graphical)

## ERC_Dup35
designator *  (value not drawn)  (graphical)

## ERC_Dup36
designator *  (value not drawn)  (graphical)

## ERC_Dup37
designator *  (value not drawn)  (graphical)

## ERC_Dup38
designator *  (value not drawn)  (graphical)

## ERC_Dup39
designator *  (value not drawn)  (graphical)

## ERC_Dup40
designator *  (value not drawn)  (graphical)

## ERC_Dup41
designator *  (value not drawn)  (graphical)

## ERC_Dup42
designator *  (value not drawn)  (graphical)

## ERC_Dup43
designator *  (value not drawn)  (graphical)

## ERC_Dup44
designator *  (value not drawn)  (graphical)

## ERC_Dup45
designator *  (value not drawn)  (graphical)

## ERC_Dup46
designator *  (value not drawn)  (graphical)

## ERC_Dup47
designator *  (value not drawn)  (graphical)

## ERC_Dup48
designator *  (value not drawn)  (graphical)

## ERC_Dup49
designator *  (value not drawn)  (graphical)

## ERC_Dup50
designator *  (value not drawn)  (graphical)

## ERC_Dup51
designator *  (value not drawn)  (graphical)

## ERC_Dup52
designator *  (value not drawn)  (graphical)

## ERC_PHYSICAL
designator *  (value not drawn)  (graphical)

## ERC_PHYSICAL_Dup1
designator *  (value not drawn)  (graphical)

## ERC_PHYSICAL_Dup2
designator *  (value not drawn)  (graphical)

## ERC_PHYSICAL_Dup3
designator *  (value not drawn)  (graphical)

## FCC_disclaimer
designator Logo?  (value not drawn)
footprint FCC_disclaimer
text: PCB; LOGO

## Fiducial
designator FID?  (value not drawn)
footprint Fiducial10-20

## FT2232H_LQFP64_0
designator U?
pins: 1 GND (power), 2 OSCI (in), 3 OSCO, 4 VPHY (power), 5 GND (power), 6 REF (in), 7 DM (in), 8 DP (in), 9 VPLL (power), 10 AGND (power), 11 GND (power), 12 VCORE (power), 13 TEST (in), 14 RESET# (in), 15 GND (power), 16 ADBUS0 (io), 17 ADBUS1 (io), 18 ADBUS2 (io), 19 ADBUS3 (io), 20 VCCIO (power), 21 ADBUS4 (io), 22 ADBUS5 (io), 23 ADBUS6 (io), 24 ADBUS7 (io), 25 GND (power), 26 ACBUS0 (io), 27 ACBUS1 (io), 28 ACBUS2 (io), 29 ACBUS3 (io), 30 ACBUS4 (io), 31 VCCIO (power), 32 ACBUS5 (io), 33 ACBUS6 (io), 34 ACBUS7 (io), 35 GND (power), 36 SUSPEND#, 37 VCORE (power), 38 BDBUS0 (io), 39 BDBUS1 (io), 40 BDBUS2 (io), 41 BDBUS3 (io), 42 VCCIO (power), 43 BDBUS4 (io), 44 BDBUS5 (io), 45 BDBUS6 (io), 46 BDBUS7 (io), 47 GND (power), 48 BCBUS0 (io), 49 VREGOUT (power), 50 VREGIN (power), 51 GND (power), 52 BCBUS1 (io), 53 BCBUS2 (io), 54 BCBUS3 (io), 55 BCBUS4 (io), 56 VCCIO (power), 57 BCBUS5 (io), 58 BCBUS6 (io), 59 BCBUS7 (io), 60 PWREN#, 61 EEDATA (io), 62 EECLK (in), 63 EECS (io), 64 VCORE (power)

## FUSE
designator F?
pins: 1, 2

## FUSE_HOLDER_0154
designator F?
pins: 1, 2

## GND_EARTH
designator *  (value not drawn)  (graphical)
pins: $PIN0 (power) hidden to $PIN0

## GND_EARTH_Dup1
designator *  (value not drawn)  (graphical)
pins: $PIN0 (power) hidden to $PIN0

## GND_EARTH_Dup2
designator *  (value not drawn)  (graphical)
pins: $PIN0 (power) hidden to $PIN0

## GND_SIGNAL
designator *  (value not drawn)  (graphical)
pins: GND (power) hidden to GND

## GND_SIGNAL_Dup1
designator *  (value not drawn)  (graphical)
pins: GND (power) hidden to GND

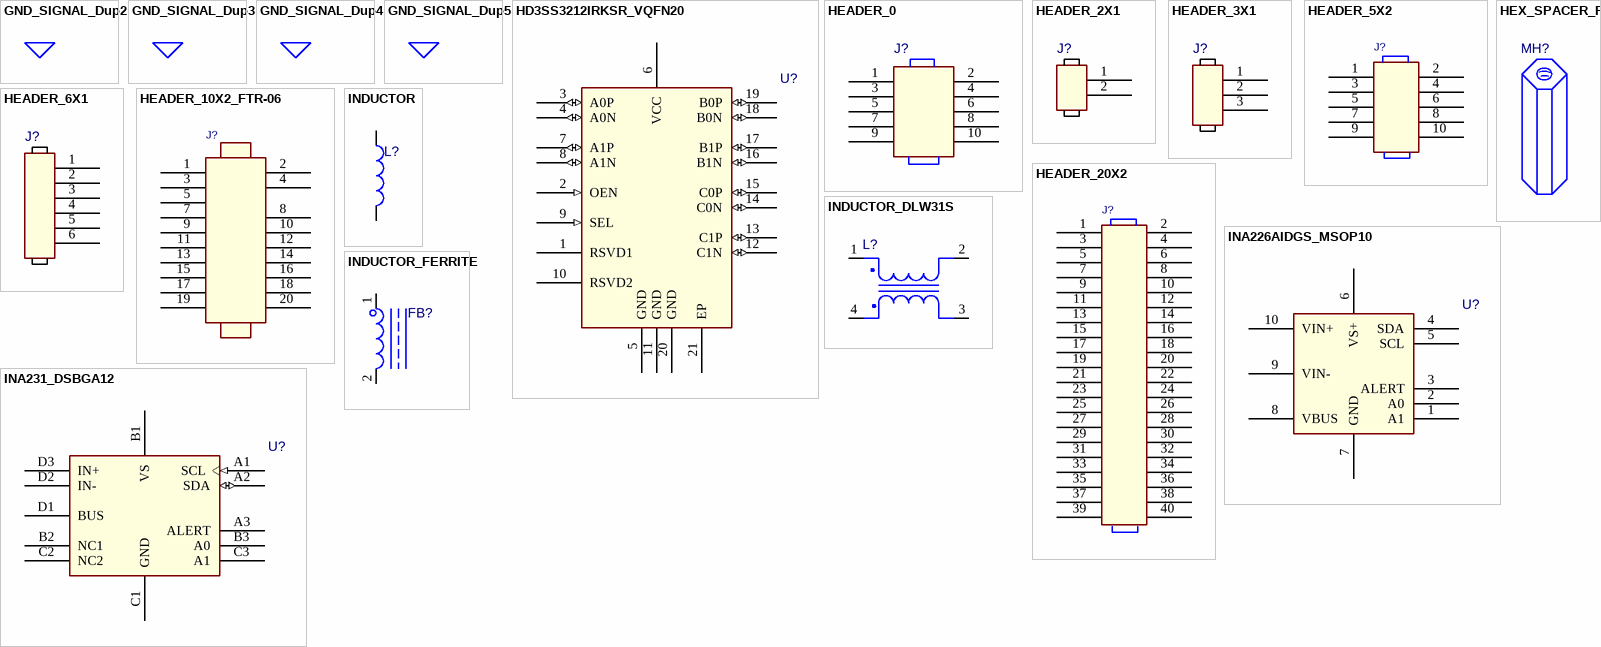
[diagram p6: symbols GND_SIGNAL_Dup2 to INDUCTOR_FERRITE]

## GND_SIGNAL_Dup2
designator *  (value not drawn)  (graphical)
pins: GND (power) hidden to GND

## GND_SIGNAL_Dup3
designator *  (value not drawn)  (graphical)
pins: GND (power) hidden to GND

## GND_SIGNAL_Dup4
designator *  (value not drawn)  (graphical)
pins: GND (power) hidden to GND

## GND_SIGNAL_Dup5
designator *  (value not drawn)  (graphical)
pins: GND (power) hidden to GND

## HD3SS3212IRKSR_VQFN20
designator U?
pins: 1 RSVD1, 2 OEN (in), 3 A0P (io), 4 A0N (io), 5 GND (power), 6 VCC (power), 7 A1P (io), 8 A1N (io), 9 SEL (in), 10 RSVD2, 11 GND (power), 12 C1N (io), 13 C1P (io), 14 C0N (io), 15 C0P (io), 16 B1N (io), 17 B1P (io), 18 B0N (io), 19 B0P (io), 20 GND (power), 21 EP (power)

## HEADER_0
designator J?
pins: 1, 2, 3, 4, 5, 6, 7, 8, 9, 10

## HEADER_2X1
designator J?
pins: 1, 2

## HEADER_3X1
designator J?
pins: 1, 2, 3

## HEADER_5X2
designator J?
pins: 1, 2, 3, 4, 5, 6, 7, 8, 9, 10

## HEADER_6X1
designator J?
pins: 1, 2, 3, 4, 5, 6

## HEADER_10X2_FTR-06
designator J?
pins: 1, 2, 3, 4, 5, 7, 8, 9, 10, 11, 12, 13, 14, 15, 16, 17, 18, 19, 20

## HEADER_20X2
designator J?
pins: 1, 2, 3, 4, 5, 6, 7, 8, 9, 10, 11, 12, 13, 14, 15, 16, 17, 18, 19, 20, 21, 22, 23, 24, 25, 26, 27, 28, 29, 30, 31, 32, 33, 34, 35, 36, 37, 38, 39, 40

## HEX_SPACER_FF
designator MH?

## INA226AIDGS_MSOP10
designator U?
pins: 1 A1, 2 A0, 3 ALERT, 4 SDA, 5 SCL, 6 VS+ (power), 7 GND (power), 8 VBUS, 9 VIN-, 10 VIN+

## INA231_DSBGA12
designator U?
pins: A1 SCL (in), A2 SDA (io), A3 ALERT, B1 VS (power), B2 NC1, B3 A0, C1 GND (power), C2 NC2, C3 A1, D1 BUS, D2 IN-, D3 IN+

## INDUCTOR
designator L?
pins: 1, 2

## INDUCTOR_DLW31S
designator L?
pins: 1 IN1, 2 IN2, 3 OUT1, 4 OUT2

## INDUCTOR_FERRITE
designator FB?
pins: 1, 2

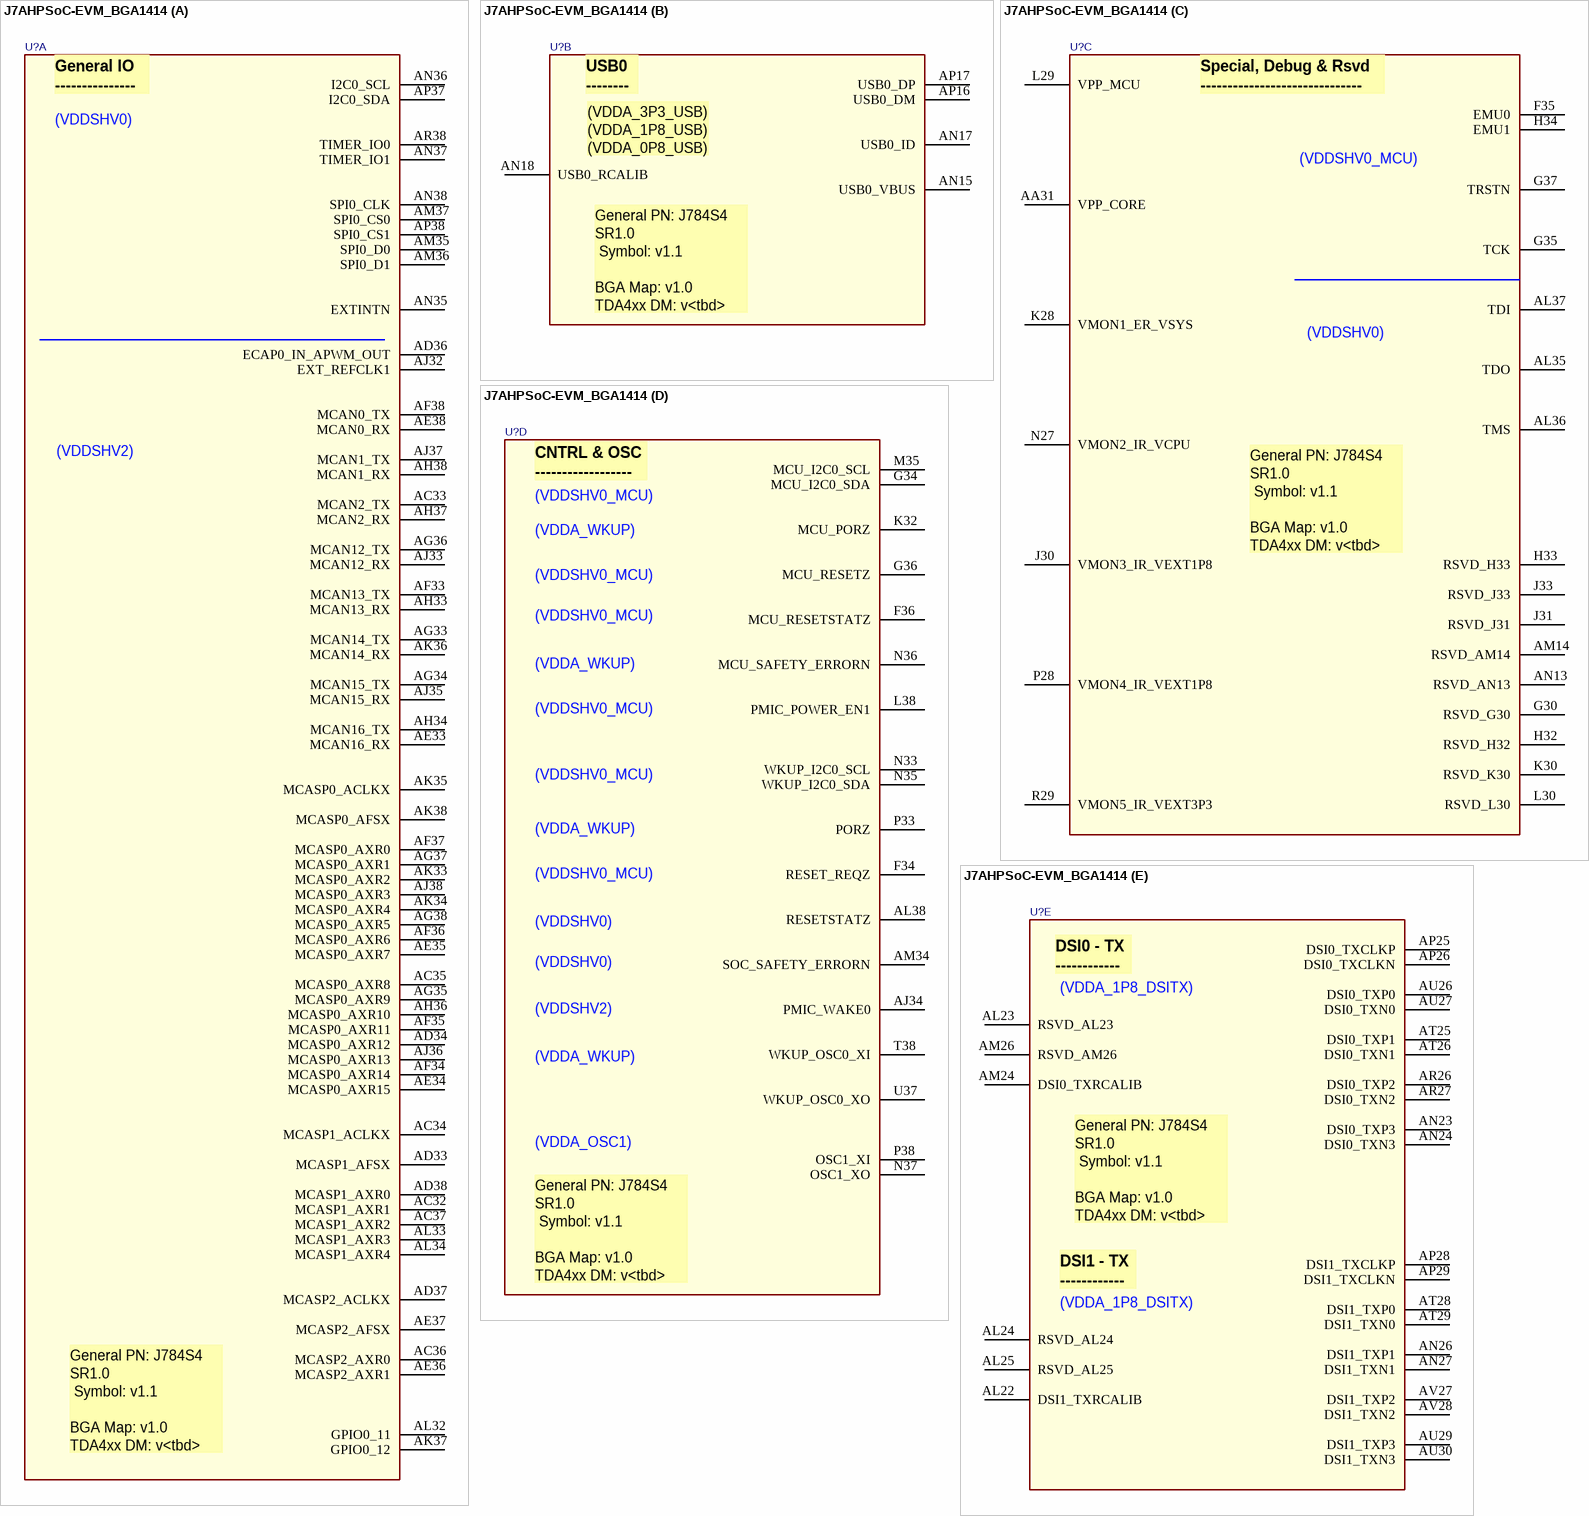
[diagram p7: symbol J7AHPSoC-EVM_BGA1414]

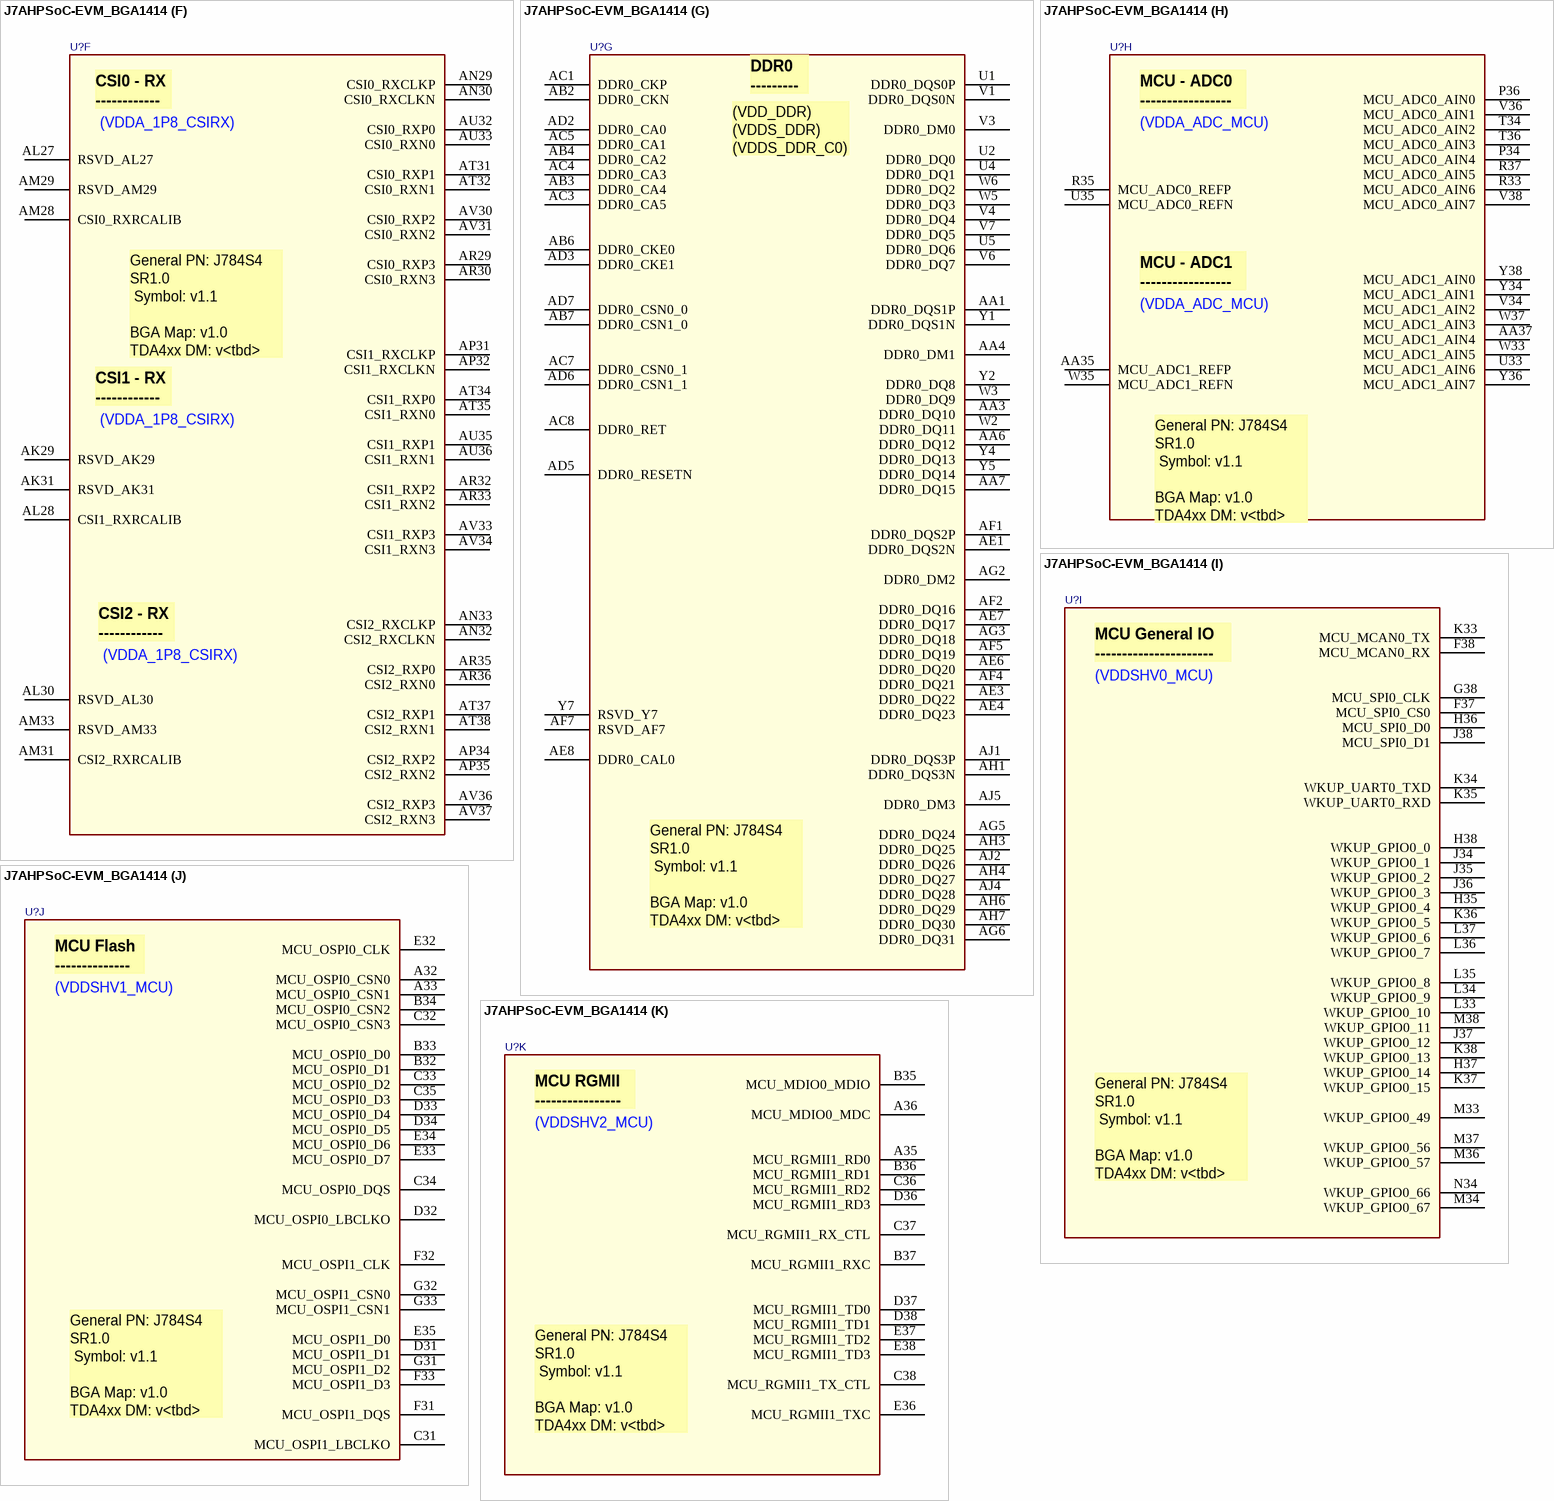
[diagram p8: symbol J7AHPSoC-EVM_BGA1414]

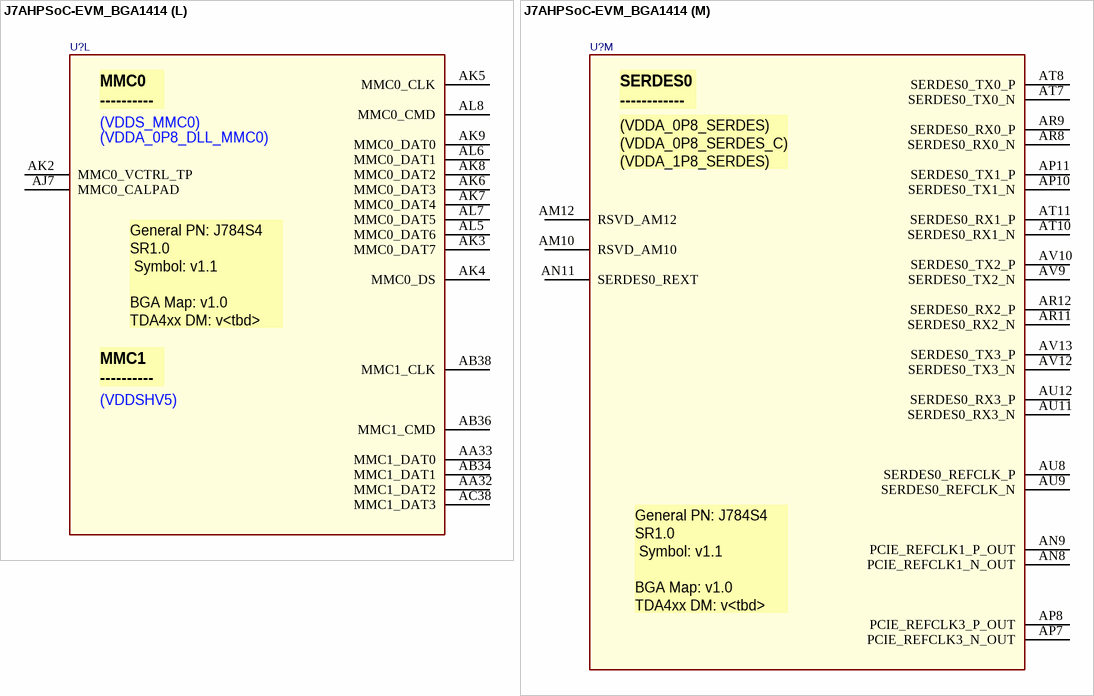
[diagram p9: symbol J7AHPSoC-EVM_BGA1414]

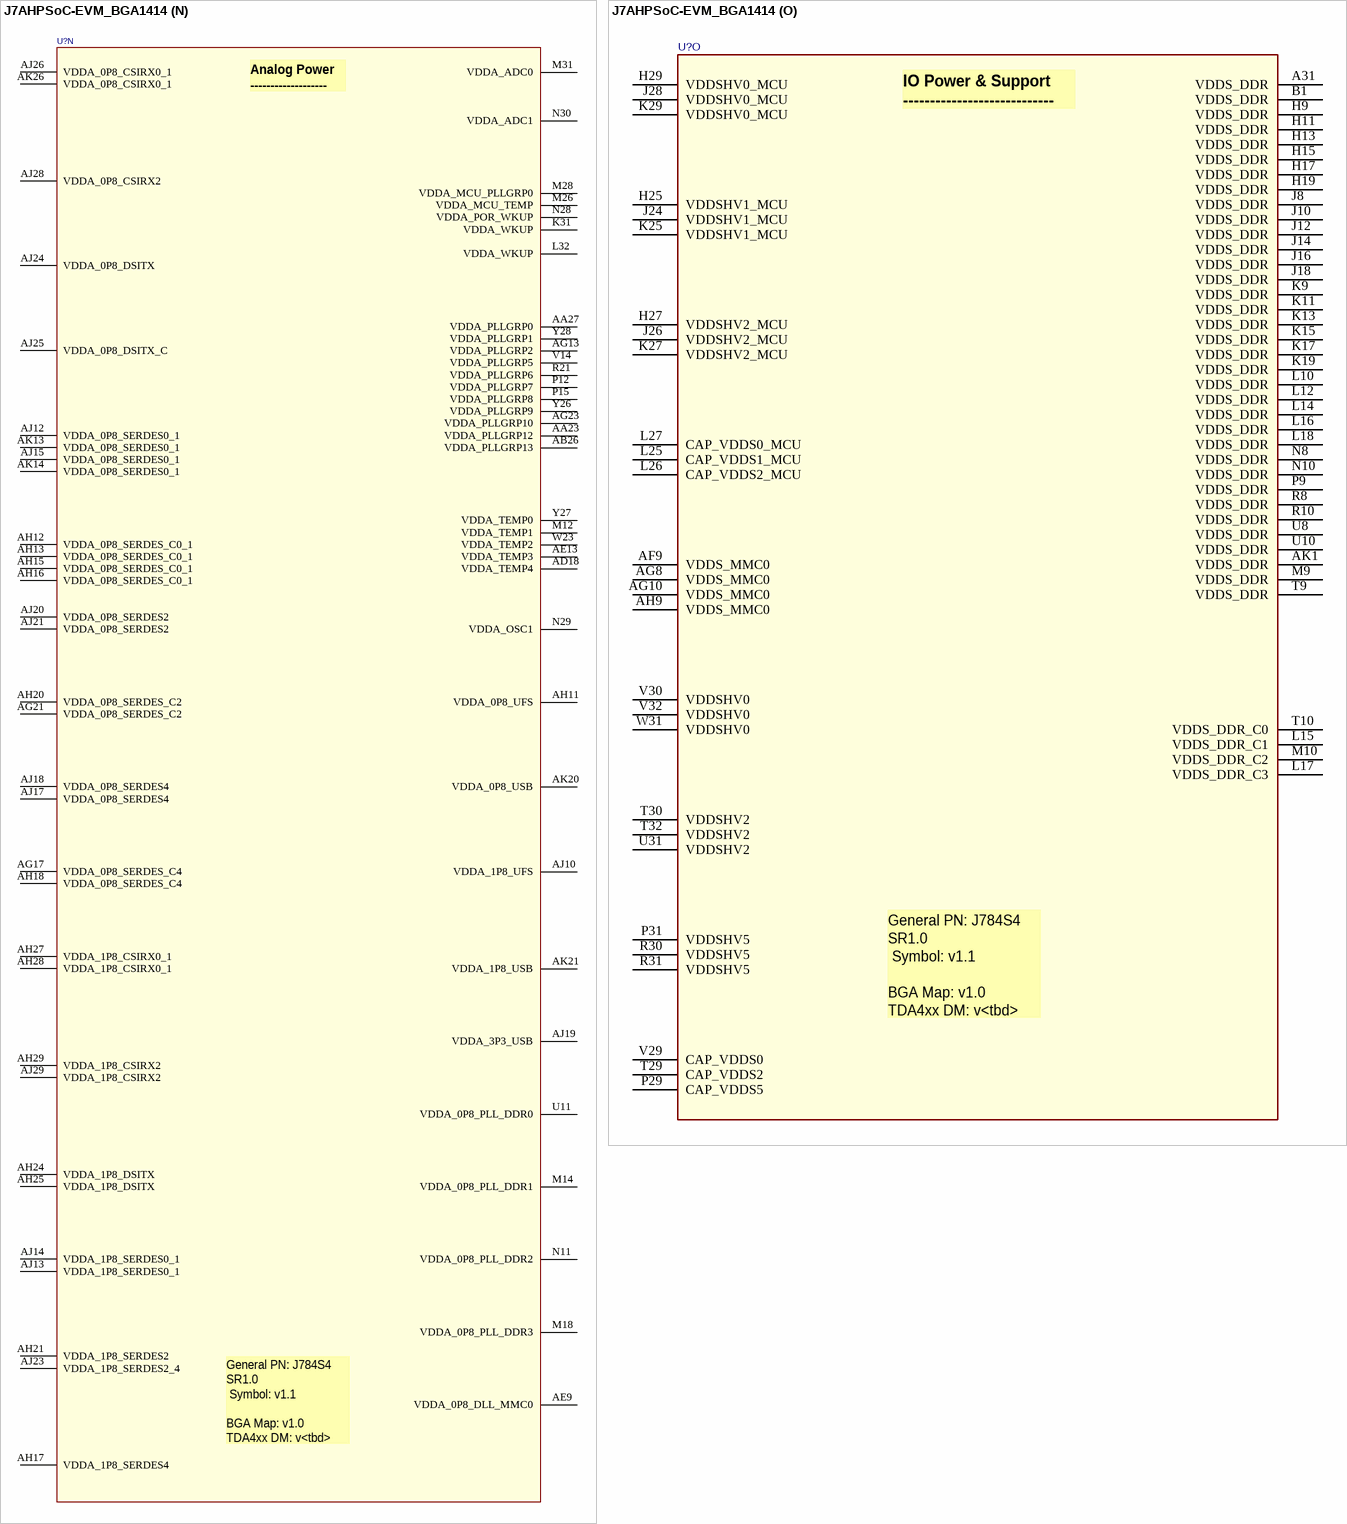
[diagram p10: symbol J7AHPSoC-EVM_BGA1414]

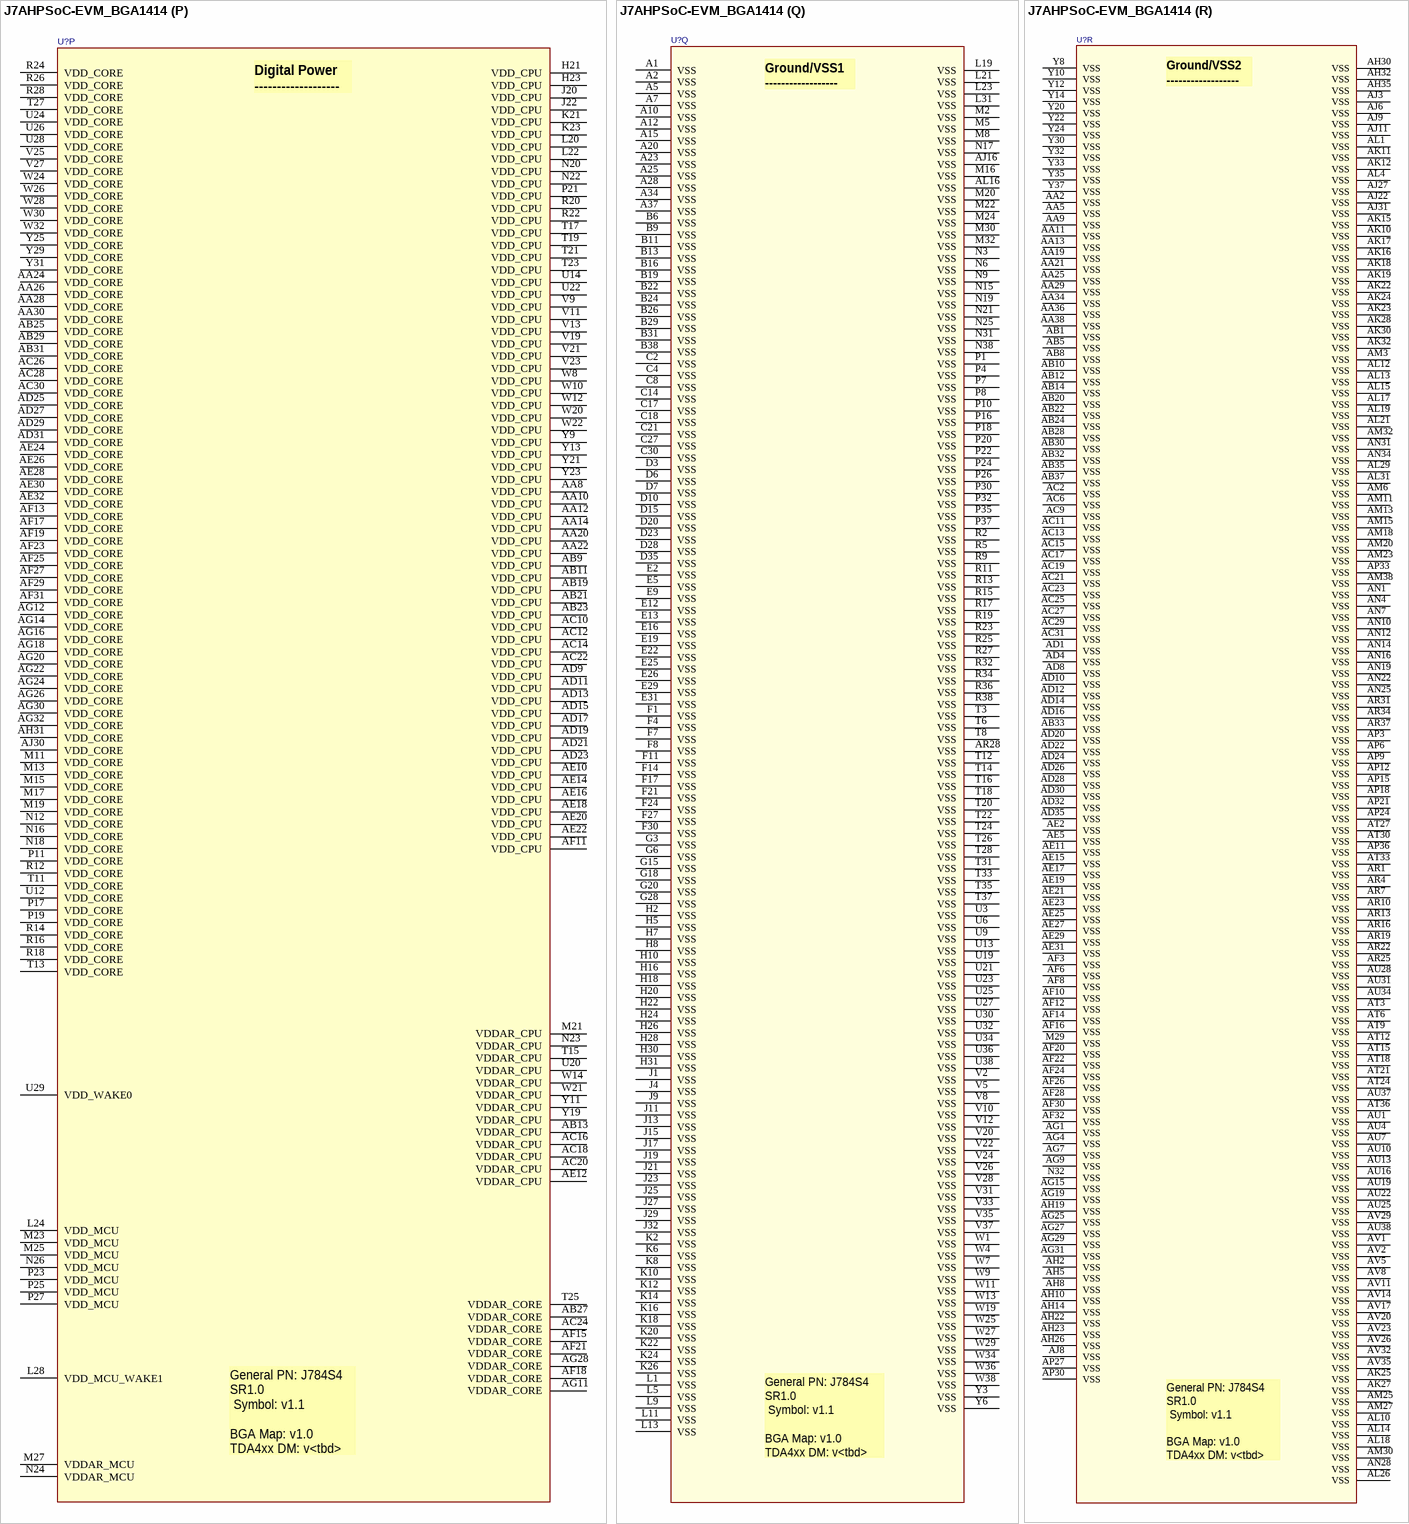
[diagram p11: symbol J7AHPSoC-EVM_BGA1414]

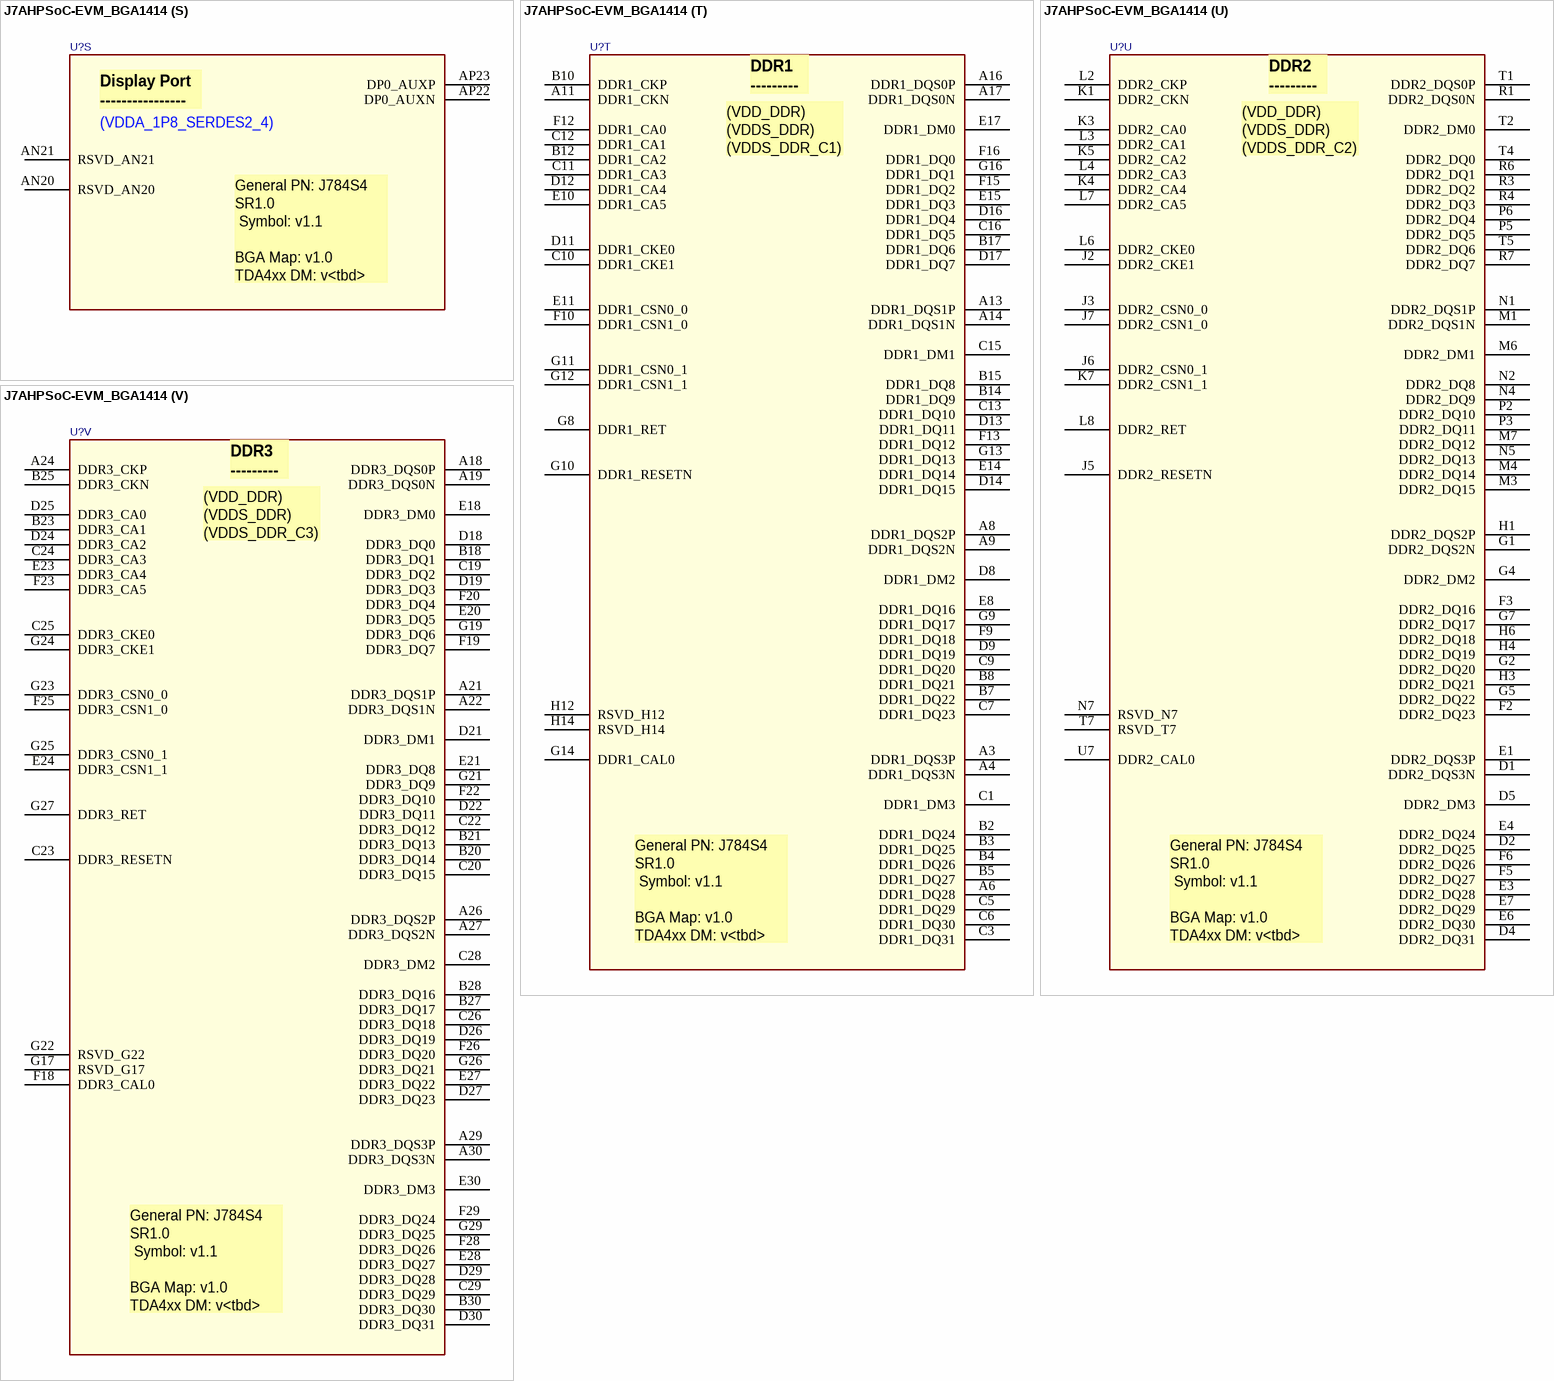
[diagram p12: symbol J7AHPSoC-EVM_BGA1414]

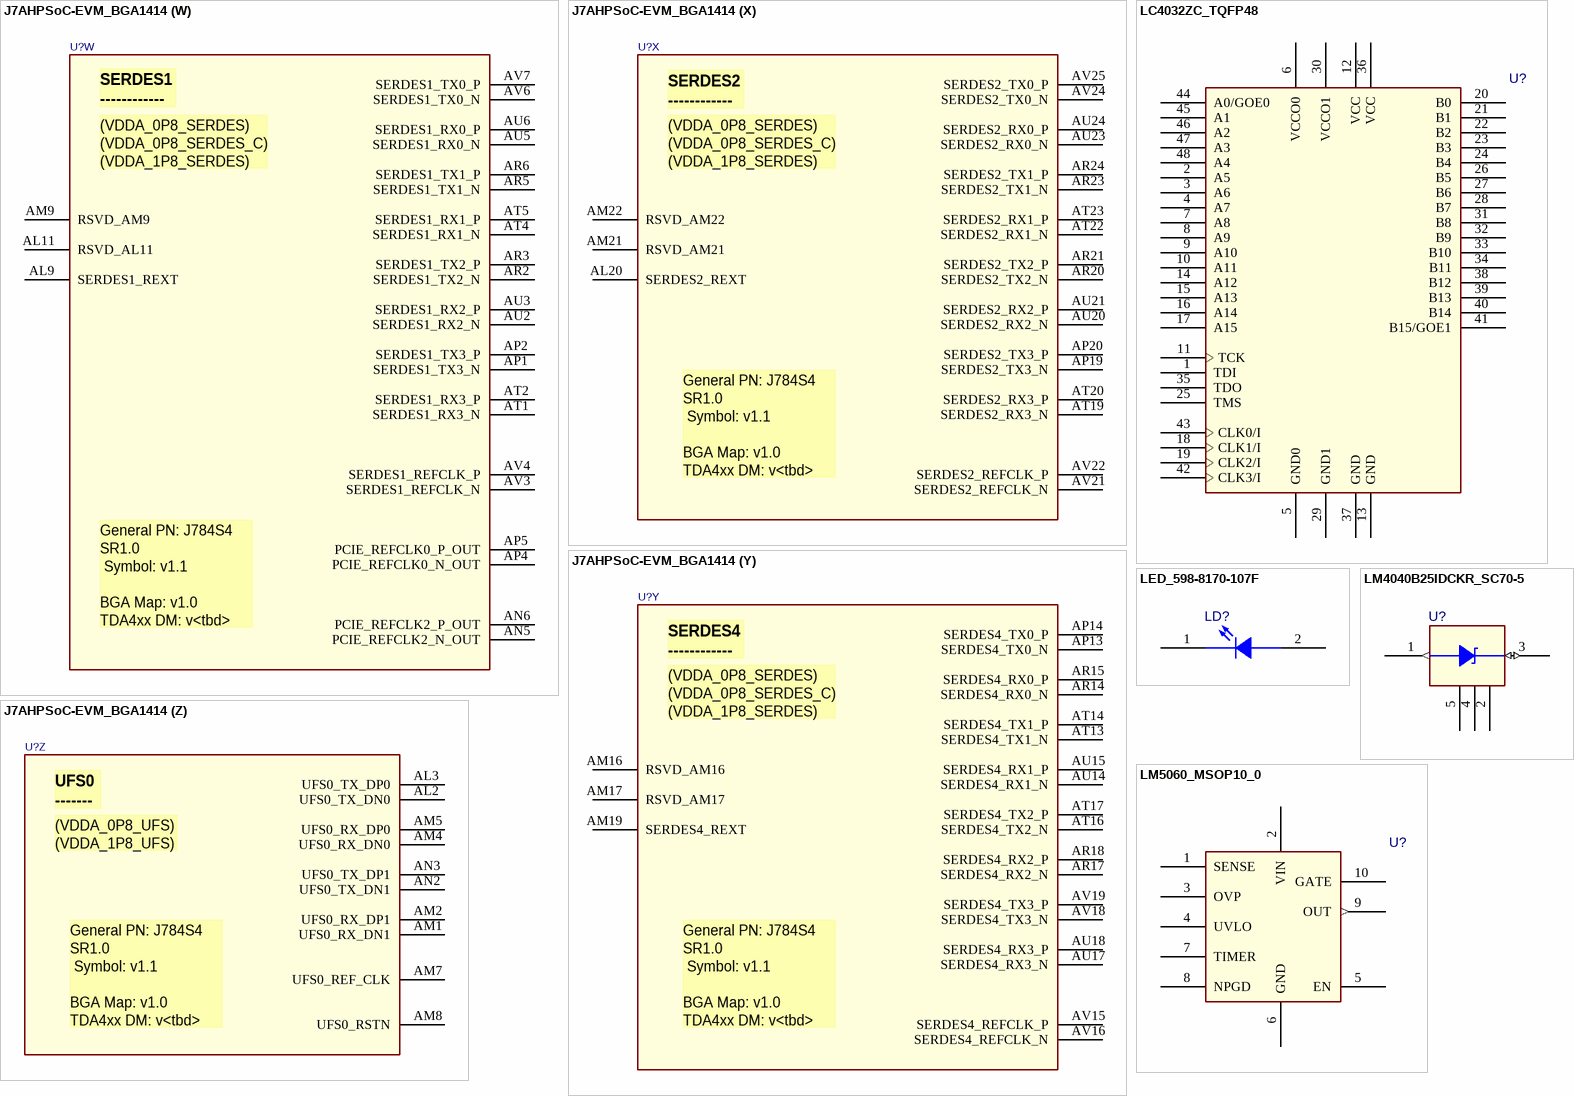
[diagram p13: symbols J7AHPSoC-EVM_BGA1414 to LM5060_MSOP10_0]